# Altium integrated library micro-siemens.IntLib: 88 symbols (part 1 of 3)
Pins are listed as number, name and electrical type; pins without a type are passive.

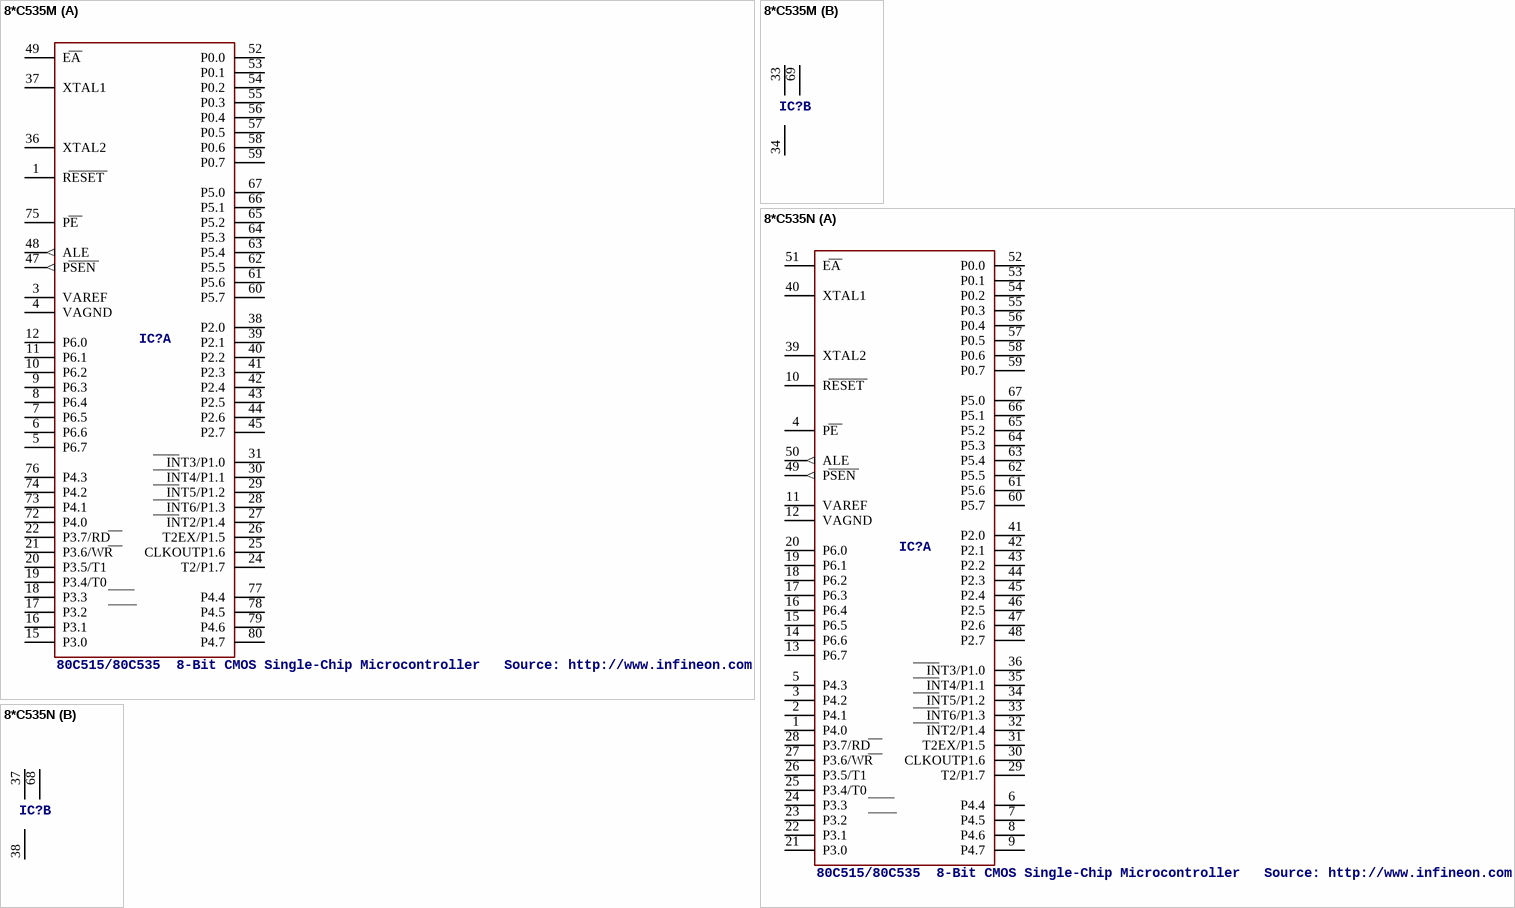
[diagram p0: symbols 8*C535M to 8*C535N]

## 8*C535M
designator IC?, comment 80C515/80C535  8-Bit CMOS Single-Chip Microcontroller   Source: http://www.infineon.com/cmc_upload/migrated_files/document_files/Datasheet/d80515.pdf This device has been discontinued !!!
OC_FARNELL: unknown; OC_NEWARK: unknown
footprint MQFP80-1
part A pins: 1 RESET, 3 VAREF, 4 VAGND, 5 P6.7, 6 P6.6, 7 P6.5, 8 P6.4, 9 P6.3, 10 P6.2, 11 P6.1, 12 P6.0, 15 P3.0, 16 P3.1, 17 P3.2, 18 P3.3, 19 P3.4/T0, 20 P3.5/T1, 21 P3.6/WR, 22 P3.7/RD, 24 T2/P1.7, 25 CLKOUTP1.6, 26 T2EX/P1.5, 27 INT2/P1.4, 28 INT6/P1.3, 29 INT5/P1.2, 30 INT4/P1.1, 31 INT3/P1.0, 36 XTAL2, 37 XTAL1, 38 P2.0, 39 P2.1, 40 P2.2, 41 P2.3, 42 P2.4, 43 P2.5, 44 P2.6, 45 P2.7, 47 PSEN (out), 48 ALE (out), 49 EA, 52 P0.0, 53 P0.1, 54 P0.2, 55 P0.3, 56 P0.4, 57 P0.5, 58 P0.6, 59 P0.7, 60 P5.7, 61 P5.6, 62 P5.5, 63 P5.4, 64 P5.3, 65 P5.2, 66 P5.1, 67 P5.0, 72 P4.0, 73 P4.1, 74 P4.2, 75 PE, 76 P4.3, 77 P4.4, 78 P4.5, 79 P4.6, 80 P4.7
part B pins: 33 VCC@1 (power), 34 GND@1 (power), 69 VCC@2 (power)

## 8*C535N
designator IC?, comment 80C515/80C535  8-Bit CMOS Single-Chip Microcontroller   Source: http://www.infineon.com/cmc_upload/migrated_files/document_files/Datasheet/d80515.pdf This device has been discontinued !!!
OC_FARNELL: unknown; OC_NEWARK: unknown
footprint PLCC68
part A pins: 1 P4.0, 2 P4.1, 3 P4.2, 4 PE, 5 P4.3, 6 P4.4, 7 P4.5, 8 P4.6, 9 P4.7, 10 RESET, 11 VAREF, 12 VAGND, 13 P6.7, 14 P6.6, 15 P6.5, 16 P6.4, 17 P6.3, 18 P6.2, 19 P6.1, 20 P6.0, 21 P3.0, 22 P3.1, 23 P3.2, 24 P3.3, 25 P3.4/T0, 26 P3.5/T1, 27 P3.6/WR, 28 P3.7/RD, 29 T2/P1.7, 30 CLKOUTP1.6, 31 T2EX/P1.5, 32 INT2/P1.4, 33 INT6/P1.3, 34 INT5/P1.2, 35 INT4/P1.1, 36 INT3/P1.0, 39 XTAL2, 40 XTAL1, 41 P2.0, 42 P2.1, 43 P2.2, 44 P2.3, 45 P2.4, 46 P2.5, 47 P2.6, 48 P2.7, 49 PSEN (out), 50 ALE (out), 51 EA, 52 P0.0, 53 P0.1, 54 P0.2, 55 P0.3, 56 P0.4, 57 P0.5, 58 P0.6, 59 P0.7, 60 P5.7, 61 P5.6, 62 P5.5, 63 P5.4, 64 P5.3, 65 P5.2, 66 P5.1, 67 P5.0
part B pins: 37 VCC@1 (power), 38 GND@1 (power), 68 VCC@2 (power)

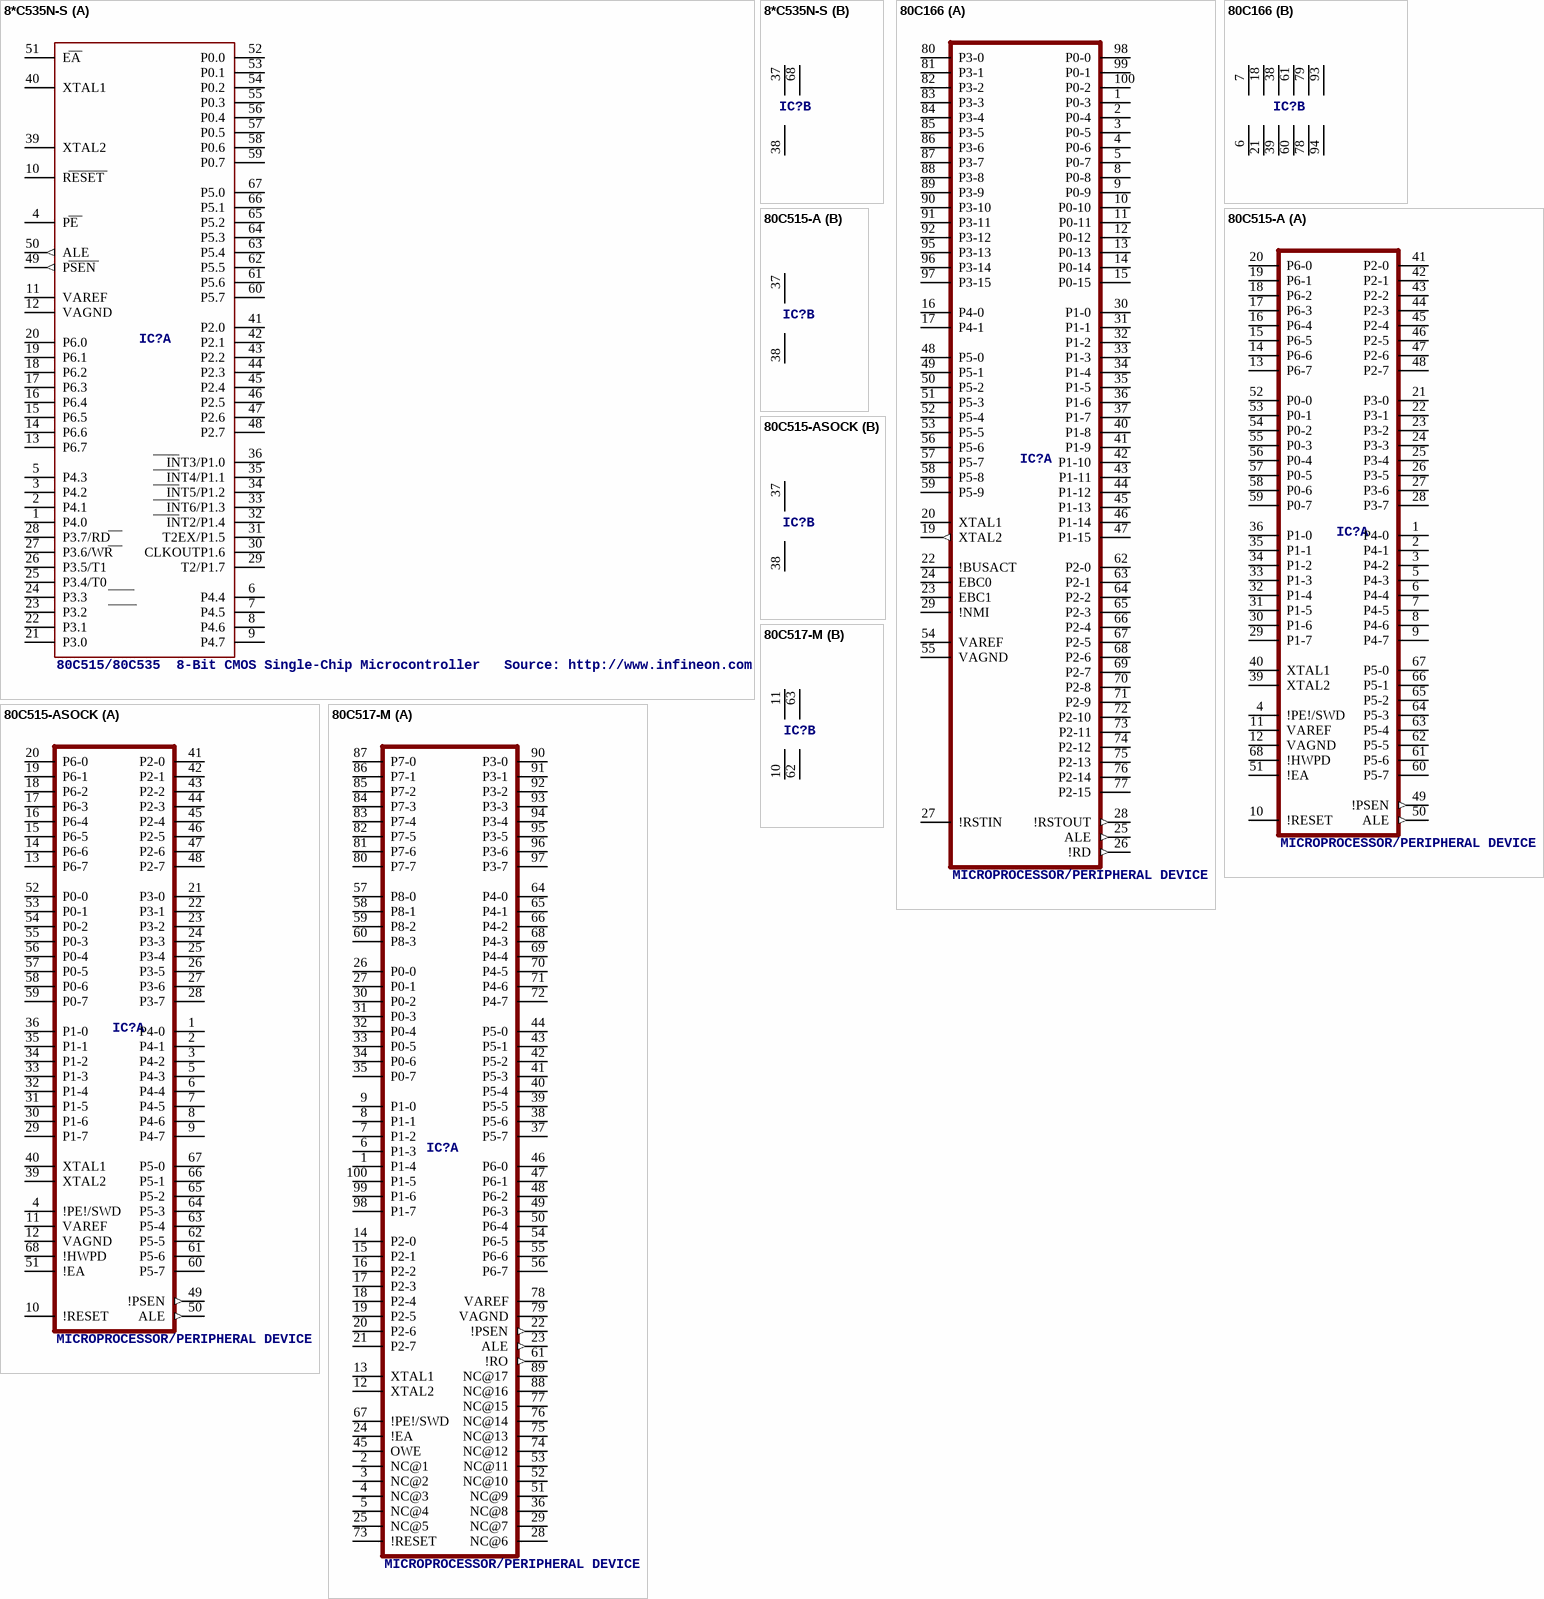
[diagram p1: symbols 8*C535N-S to 80C517-M]

## 8*C535N-S
designator IC?, comment 80C515/80C535  8-Bit CMOS Single-Chip Microcontroller   Source: http://www.infineon.com/cmc_upload/migrated_files/document_files/Datasheet/d80515.pdf This device has been discontinued !!!
OC_FARNELL: unknown; OC_NEWARK: unknown
footprint PLCC68SOCK
part A pins: 1 P4.0, 2 P4.1, 3 P4.2, 4 PE, 5 P4.3, 6 P4.4, 7 P4.5, 8 P4.6, 9 P4.7, 10 RESET, 11 VAREF, 12 VAGND, 13 P6.7, 14 P6.6, 15 P6.5, 16 P6.4, 17 P6.3, 18 P6.2, 19 P6.1, 20 P6.0, 21 P3.0, 22 P3.1, 23 P3.2, 24 P3.3, 25 P3.4/T0, 26 P3.5/T1, 27 P3.6/WR, 28 P3.7/RD, 29 T2/P1.7, 30 CLKOUTP1.6, 31 T2EX/P1.5, 32 INT2/P1.4, 33 INT6/P1.3, 34 INT5/P1.2, 35 INT4/P1.1, 36 INT3/P1.0, 39 XTAL2, 40 XTAL1, 41 P2.0, 42 P2.1, 43 P2.2, 44 P2.3, 45 P2.4, 46 P2.5, 47 P2.6, 48 P2.7, 49 PSEN (out), 50 ALE (out), 51 EA, 52 P0.0, 53 P0.1, 54 P0.2, 55 P0.3, 56 P0.4, 57 P0.5, 58 P0.6, 59 P0.7, 60 P5.7, 61 P5.6, 62 P5.5, 63 P5.4, 64 P5.3, 65 P5.2, 66 P5.1, 67 P5.0
part B pins: 37 VCC@1 (power), 38 GND@1 (power), 68 VCC@2 (power)

## 80C166
designator IC?, comment MICROPROCESSOR/PERIPHERAL DEVICE
OC_FARNELL: unknown; OC_NEWARK: unknown
footprint MQFP100
part A pins: 1 P0-3, 2 P0-4, 3 P0-5, 4 P0-6, 5 P0-7, 8 P0-8, 9 P0-9, 10 P0-10, 11 P0-11, 12 P0-12, 13 P0-13, 14 P0-14, 15 P0-15, 16 P4-0, 17 P4-1, 19 XTAL2 (out), 20 XTAL1, 22 !BUSACT, 23 EBC1, 24 EBC0, 25 ALE (out), 26 !RD (out), 27 !RSTIN, 28 !RSTOUT (out), 29 !NMI, 30 P1-0, 31 P1-1, 32 P1-2, 33 P1-3, 34 P1-4, 35 P1-5, 36 P1-6, 37 P1-7, 40 P1-8, 41 P1-9, 42 P1-10, 43 P1-11, 44 P1-12, 45 P1-13, 46 P1-14, 47 P1-15, 48 P5-0, 49 P5-1, 50 P5-2, 51 P5-3, 52 P5-4, 53 P5-5, 54 VAREF, 55 VAGND, 56 P5-6, 57 P5-7, 58 P5-8, 59 P5-9, 62 P2-0, 63 P2-1, 64 P2-2, 65 P2-3, 66 P2-4, 67 P2-5, 68 P2-6, 69 P2-7, 70 P2-8, 71 P2-9, 72 P2-10, 73 P2-11, 74 P2-12, 75 P2-13, 76 P2-14, 77 P2-15, 80 P3-0, 81 P3-1, 82 P3-2, 83 P3-3, 84 P3-4, 85 P3-5, 86 P3-6, 87 P3-7, 88 P3-8, 89 P3-9, 90 P3-10, 91 P3-11, 92 P3-12, 95 P3-13, 96 P3-14, 97 P3-15, 98 P0-0, 99 P0-1, 100 P0-2
part B pins: 6 VSS@1 (power), 7 VCC@1 (power), 18 VCC@2 (power), 21 VSS@2 (power), 38 VCC@3 (power), 39 VSS@3 (power), 60 VSS@4 (power), 61 VCC@4 (power), 78 VSS@5 (power), 79 VCC@5 (power), 93 VCC@6 (power), 94 VSS@6 (power)

## 80C515-A
designator IC?, comment MICROPROCESSOR/PERIPHERAL DEVICE
OC_FARNELL: unknown; OC_NEWARK: unknown
footprint PLCC68
part A pins: 1 P4-0, 2 P4-1, 3 P4-2, 4 !PE!/SWD, 5 P4-3, 6 P4-4, 7 P4-5, 8 P4-6, 9 P4-7, 10 !RESET, 11 VAREF, 12 VAGND, 13 P6-7, 14 P6-6, 15 P6-5, 16 P6-4, 17 P6-3, 18 P6-2, 19 P6-1, 20 P6-0, 21 P3-0, 22 P3-1, 23 P3-2, 24 P3-3, 25 P3-4, 26 P3-5, 27 P3-6, 28 P3-7, 29 P1-7, 30 P1-6, 31 P1-5, 32 P1-4, 33 P1-3, 34 P1-2, 35 P1-1, 36 P1-0, 39 XTAL2, 40 XTAL1, 41 P2-0, 42 P2-1, 43 P2-2, 44 P2-3, 45 P2-4, 46 P2-5, 47 P2-6, 48 P2-7, 49 !PSEN (out), 50 ALE (out), 51 !EA, 52 P0-0, 53 P0-1, 54 P0-2, 55 P0-3, 56 P0-4, 57 P0-5, 58 P0-6, 59 P0-7, 60 P5-7, 61 P5-6, 62 P5-5, 63 P5-4, 64 P5-3, 65 P5-2, 66 P5-1, 67 P5-0, 68 !HWPD
part B pins: 37 VCC (power), 38 VSS (power)

## 80C515-ASOCK
designator IC?, comment MICROPROCESSOR/PERIPHERAL DEVICE
OC_FARNELL: unknown; OC_NEWARK: unknown
footprint PLCC68SOCK
part A pins: 1 P4-0, 2 P4-1, 3 P4-2, 4 !PE!/SWD, 5 P4-3, 6 P4-4, 7 P4-5, 8 P4-6, 9 P4-7, 10 !RESET, 11 VAREF, 12 VAGND, 13 P6-7, 14 P6-6, 15 P6-5, 16 P6-4, 17 P6-3, 18 P6-2, 19 P6-1, 20 P6-0, 21 P3-0, 22 P3-1, 23 P3-2, 24 P3-3, 25 P3-4, 26 P3-5, 27 P3-6, 28 P3-7, 29 P1-7, 30 P1-6, 31 P1-5, 32 P1-4, 33 P1-3, 34 P1-2, 35 P1-1, 36 P1-0, 39 XTAL2, 40 XTAL1, 41 P2-0, 42 P2-1, 43 P2-2, 44 P2-3, 45 P2-4, 46 P2-5, 47 P2-6, 48 P2-7, 49 !PSEN (out), 50 ALE (out), 51 !EA, 52 P0-0, 53 P0-1, 54 P0-2, 55 P0-3, 56 P0-4, 57 P0-5, 58 P0-6, 59 P0-7, 60 P5-7, 61 P5-6, 62 P5-5, 63 P5-4, 64 P5-3, 65 P5-2, 66 P5-1, 67 P5-0, 68 !HWPD
part B pins: 37 VCC (power), 38 VSS (power)

## 80C517-M
designator IC?, comment MICROPROCESSOR/PERIPHERAL DEVICE
OC_FARNELL: unknown; OC_NEWARK: unknown
footprint MQFP100
part A pins: 1 P1-4, 2 NC@1, 3 NC@2, 4 NC@3, 5 NC@4, 6 P1-3, 7 P1-2, 8 P1-1, 9 P1-0, 12 XTAL2, 13 XTAL1, 14 P2-0, 15 P2-1, 16 P2-2, 17 P2-3, 18 P2-4, 19 P2-5, 20 P2-6, 21 P2-7, 22 !PSEN (out), 23 ALE (out), 24 !EA, 25 NC@5, 26 P0-0, 27 P0-1, 28 NC@6, 29 NC@7, 30 P0-2, 31 P0-3, 32 P0-4, 33 P0-5, 34 P0-6, 35 P0-7, 36 NC@8, 37 P5-7, 38 P5-6, 39 P5-5, 40 P5-4, 41 P5-3, 42 P5-2, 43 P5-1, 44 P5-0, 45 OWE, 46 P6-0, 47 P6-1, 48 P6-2, 49 P6-3, 50 P6-4, 51 NC@9, 52 NC@10, 53 NC@11, 54 P6-5, 55 P6-6, 56 P6-7, 57 P8-0, 58 P8-1, 59 P8-2, 60 P8-3, 61 !RO (out), 64 P4-0, 65 P4-1, 66 P4-2, 67 !PE!/SWD, 68 P4-3, 69 P4-4, 70 P4-5, 71 P4-6, 72 P4-7, 73 !RESET, 74 NC@12, 75 NC@13, 76 NC@14, 77 NC@15, 78 VAREF, 79 VAGND, 80 P7-7, 81 P7-6, 82 P7-5, 83 P7-4, 84 P7-3, 85 P7-2, 86 P7-1, 87 P7-0, 88 NC@16, 89 NC@17, 90 P3-0, 91 P3-1, 92 P3-2, 93 P3-3, 94 P3-4, 95 P3-5, 96 P3-6, 97 P3-7, 98 P1-7, 99 P1-6, 100 P1-5
part B pins: 10 VSS@1 (power), 11 VCC@1 (power), 62 VSS@2 (power), 63 VCC@2 (power)

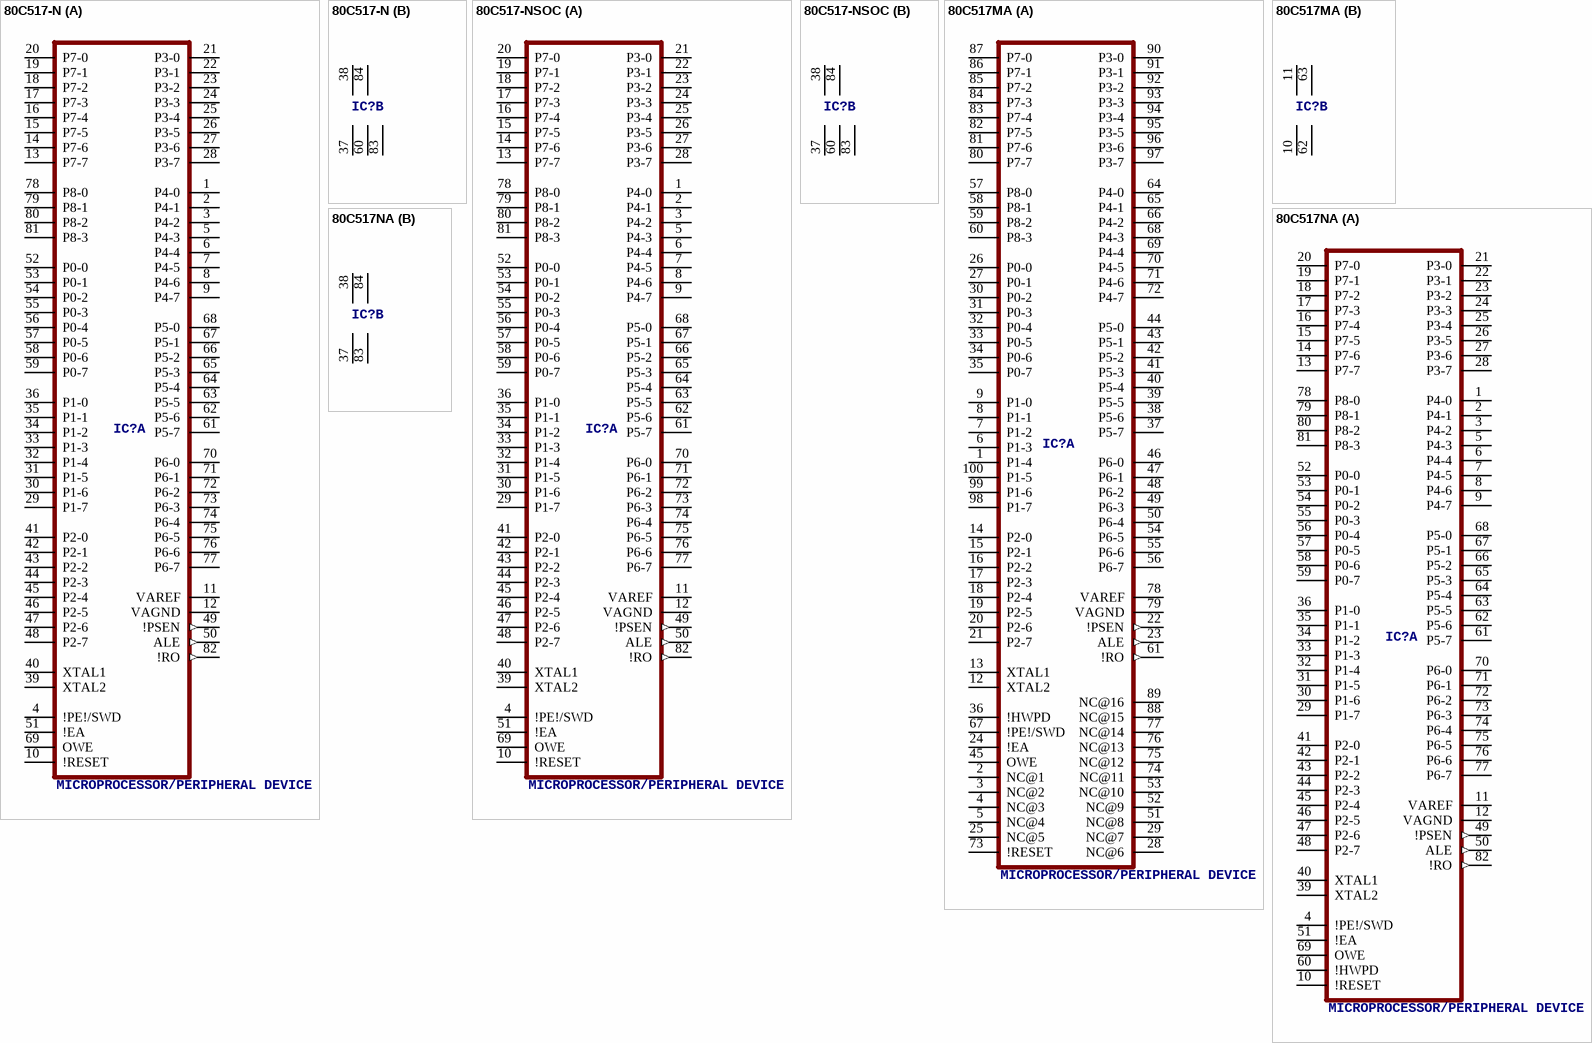
[diagram p2: symbols 80C517-N to 80C517NA]

## 80C517-N
designator IC?, comment MICROPROCESSOR/PERIPHERAL DEVICE
OC_FARNELL: unknown; OC_NEWARK: unknown
footprint PLCC84
part A pins: 1 P4-0, 2 P4-1, 3 P4-2, 4 !PE!/SWD, 5 P4-3, 6 P4-4, 7 P4-5, 8 P4-6, 9 P4-7, 10 !RESET, 11 VAREF, 12 VAGND, 13 P7-7, 14 P7-6, 15 P7-5, 16 P7-4, 17 P7-3, 18 P7-2, 19 P7-1, 20 P7-0, 21 P3-0, 22 P3-1, 23 P3-2, 24 P3-3, 25 P3-4, 26 P3-5, 27 P3-6, 28 P3-7, 29 P1-7, 30 P1-6, 31 P1-5, 32 P1-4, 33 P1-3, 34 P1-2, 35 P1-1, 36 P1-0, 39 XTAL2, 40 XTAL1, 41 P2-0, 42 P2-1, 43 P2-2, 44 P2-3, 45 P2-4, 46 P2-5, 47 P2-6, 48 P2-7, 49 !PSEN (out), 50 ALE (out), 51 !EA, 52 P0-0, 53 P0-1, 54 P0-2, 55 P0-3, 56 P0-4, 57 P0-5, 58 P0-6, 59 P0-7, 61 P5-7, 62 P5-6, 63 P5-5, 64 P5-4, 65 P5-3, 66 P5-2, 67 P5-1, 68 P5-0, 69 OWE, 70 P6-0, 71 P6-1, 72 P6-2, 73 P6-3, 74 P6-4, 75 P6-5, 76 P6-6, 77 P6-7, 78 P8-0, 79 P8-1, 80 P8-2, 81 P8-3, 82 !RO (out)
part B pins: 37 VSS@1 (power), 38 VCC@1 (power), 60 VSS@2 (power), 83 VSS@3 (power), 84 VCC@2 (power)

## 80C517-NSOC
designator IC?, comment MICROPROCESSOR/PERIPHERAL DEVICE
OC_FARNELL: unknown; OC_NEWARK: unknown
footprint PLCC84SOCK
part A pins: 1 P4-0, 2 P4-1, 3 P4-2, 4 !PE!/SWD, 5 P4-3, 6 P4-4, 7 P4-5, 8 P4-6, 9 P4-7, 10 !RESET, 11 VAREF, 12 VAGND, 13 P7-7, 14 P7-6, 15 P7-5, 16 P7-4, 17 P7-3, 18 P7-2, 19 P7-1, 20 P7-0, 21 P3-0, 22 P3-1, 23 P3-2, 24 P3-3, 25 P3-4, 26 P3-5, 27 P3-6, 28 P3-7, 29 P1-7, 30 P1-6, 31 P1-5, 32 P1-4, 33 P1-3, 34 P1-2, 35 P1-1, 36 P1-0, 39 XTAL2, 40 XTAL1, 41 P2-0, 42 P2-1, 43 P2-2, 44 P2-3, 45 P2-4, 46 P2-5, 47 P2-6, 48 P2-7, 49 !PSEN (out), 50 ALE (out), 51 !EA, 52 P0-0, 53 P0-1, 54 P0-2, 55 P0-3, 56 P0-4, 57 P0-5, 58 P0-6, 59 P0-7, 61 P5-7, 62 P5-6, 63 P5-5, 64 P5-4, 65 P5-3, 66 P5-2, 67 P5-1, 68 P5-0, 69 OWE, 70 P6-0, 71 P6-1, 72 P6-2, 73 P6-3, 74 P6-4, 75 P6-5, 76 P6-6, 77 P6-7, 78 P8-0, 79 P8-1, 80 P8-2, 81 P8-3, 82 !RO (out)
part B pins: 37 VSS@1 (power), 38 VCC@1 (power), 60 VSS@2 (power), 83 VSS@3 (power), 84 VCC@2 (power)

## 80C517MA
designator IC?, comment MICROPROCESSOR/PERIPHERAL DEVICE
OC_FARNELL: unknown; OC_NEWARK: unknown
footprint MQFP100
part A pins: 1 P1-4, 2 NC@1, 3 NC@2, 4 NC@3, 5 NC@4, 6 P1-3, 7 P1-2, 8 P1-1, 9 P1-0, 12 XTAL2, 13 XTAL1, 14 P2-0, 15 P2-1, 16 P2-2, 17 P2-3, 18 P2-4, 19 P2-5, 20 P2-6, 21 P2-7, 22 !PSEN (out), 23 ALE (out), 24 !EA, 25 NC@5, 26 P0-0, 27 P0-1, 28 NC@6, 29 NC@7, 30 P0-2, 31 P0-3, 32 P0-4, 33 P0-5, 34 P0-6, 35 P0-7, 36 !HWPD, 37 P5-7, 38 P5-6, 39 P5-5, 40 P5-4, 41 P5-3, 42 P5-2, 43 P5-1, 44 P5-0, 45 OWE, 46 P6-0, 47 P6-1, 48 P6-2, 49 P6-3, 50 P6-4, 51 NC@8, 52 NC@9, 53 NC@10, 54 P6-5, 55 P6-6, 56 P6-7, 57 P8-0, 58 P8-1, 59 P8-2, 60 P8-3, 61 !RO (out), 64 P4-0, 65 P4-1, 66 P4-2, 67 !PE!/SWD, 68 P4-3, 69 P4-4, 70 P4-5, 71 P4-6, 72 P4-7, 73 !RESET, 74 NC@11, 75 NC@12, 76 NC@13, 77 NC@14, 78 VAREF, 79 VAGND, 80 P7-7, 81 P7-6, 82 P7-5, 83 P7-4, 84 P7-3, 85 P7-2, 86 P7-1, 87 P7-0, 88 NC@15, 89 NC@16, 90 P3-0, 91 P3-1, 92 P3-2, 93 P3-3, 94 P3-4, 95 P3-5, 96 P3-6, 97 P3-7, 98 P1-7, 99 P1-6, 100 P1-5
part B pins: 10 VSS@1 (power), 11 VCC@1 (power), 62 VSS@2 (power), 63 VCC@2 (power)

## 80C517NA
designator IC?, comment MICROPROCESSOR/PERIPHERAL DEVICE
OC_FARNELL: unknown; OC_NEWARK: unknown
footprint PLCC84
part A pins: 1 P4-0, 2 P4-1, 3 P4-2, 4 !PE!/SWD, 5 P4-3, 6 P4-4, 7 P4-5, 8 P4-6, 9 P4-7, 10 !RESET, 11 VAREF, 12 VAGND, 13 P7-7, 14 P7-6, 15 P7-5, 16 P7-4, 17 P7-3, 18 P7-2, 19 P7-1, 20 P7-0, 21 P3-0, 22 P3-1, 23 P3-2, 24 P3-3, 25 P3-4, 26 P3-5, 27 P3-6, 28 P3-7, 29 P1-7, 30 P1-6, 31 P1-5, 32 P1-4, 33 P1-3, 34 P1-2, 35 P1-1, 36 P1-0, 39 XTAL2, 40 XTAL1, 41 P2-0, 42 P2-1, 43 P2-2, 44 P2-3, 45 P2-4, 46 P2-5, 47 P2-6, 48 P2-7, 49 !PSEN (out), 50 ALE (out), 51 !EA, 52 P0-0, 53 P0-1, 54 P0-2, 55 P0-3, 56 P0-4, 57 P0-5, 58 P0-6, 59 P0-7, 60 !HWPD, 61 P5-7, 62 P5-6, 63 P5-5, 64 P5-4, 65 P5-3, 66 P5-2, 67 P5-1, 68 P5-0, 69 OWE, 70 P6-0, 71 P6-1, 72 P6-2, 73 P6-3, 74 P6-4, 75 P6-5, 76 P6-6, 77 P6-7, 78 P8-0, 79 P8-1, 80 P8-2, 81 P8-3, 82 !RO (out)
part B pins: 37 VSS@1 (power), 38 VCC@1 (power), 83 VSS@2 (power), 84 VCC@2 (power)

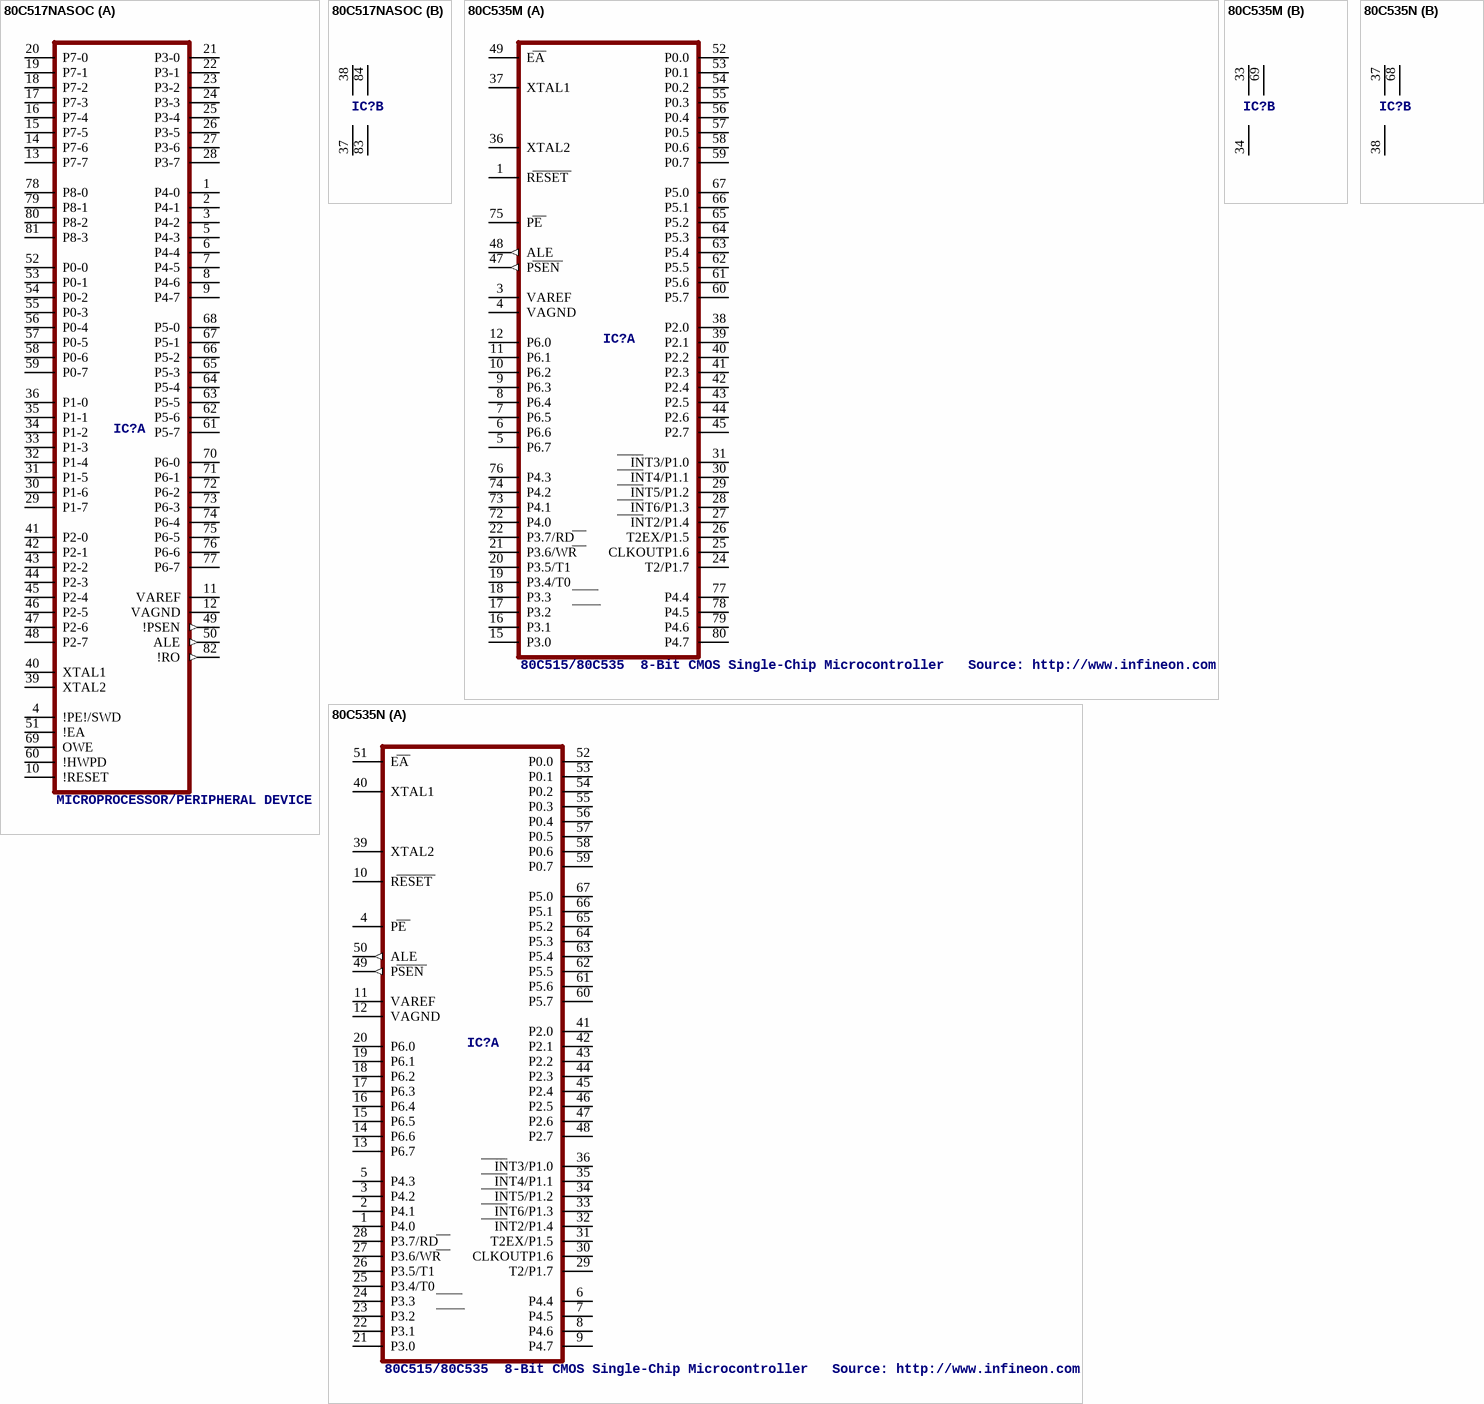
[diagram p3: symbols 80C517NASOC to 80C535N]

## 80C517NASOC
designator IC?, comment MICROPROCESSOR/PERIPHERAL DEVICE
OC_FARNELL: unknown; OC_NEWARK: unknown
footprint PLCC84SOCK
part A pins: 1 P4-0, 2 P4-1, 3 P4-2, 4 !PE!/SWD, 5 P4-3, 6 P4-4, 7 P4-5, 8 P4-6, 9 P4-7, 10 !RESET, 11 VAREF, 12 VAGND, 13 P7-7, 14 P7-6, 15 P7-5, 16 P7-4, 17 P7-3, 18 P7-2, 19 P7-1, 20 P7-0, 21 P3-0, 22 P3-1, 23 P3-2, 24 P3-3, 25 P3-4, 26 P3-5, 27 P3-6, 28 P3-7, 29 P1-7, 30 P1-6, 31 P1-5, 32 P1-4, 33 P1-3, 34 P1-2, 35 P1-1, 36 P1-0, 39 XTAL2, 40 XTAL1, 41 P2-0, 42 P2-1, 43 P2-2, 44 P2-3, 45 P2-4, 46 P2-5, 47 P2-6, 48 P2-7, 49 !PSEN (out), 50 ALE (out), 51 !EA, 52 P0-0, 53 P0-1, 54 P0-2, 55 P0-3, 56 P0-4, 57 P0-5, 58 P0-6, 59 P0-7, 60 !HWPD, 61 P5-7, 62 P5-6, 63 P5-5, 64 P5-4, 65 P5-3, 66 P5-2, 67 P5-1, 68 P5-0, 69 OWE, 70 P6-0, 71 P6-1, 72 P6-2, 73 P6-3, 74 P6-4, 75 P6-5, 76 P6-6, 77 P6-7, 78 P8-0, 79 P8-1, 80 P8-2, 81 P8-3, 82 !RO (out)
part B pins: 37 VSS@1 (power), 38 VCC@1 (power), 83 VSS@2 (power), 84 VCC@2 (power)

## 80C535M
designator IC?, comment 80C515/80C535  8-Bit CMOS Single-Chip Microcontroller   Source: http://www.infineon.com/cmc_upload/migrated_files/document_files/Datasheet/d80515.pdf
OC_FARNELL: unknown; OC_NEWARK: unknown
footprint MQFP80-1
part A pins: 1 RESET, 3 VAREF, 4 VAGND, 5 P6.7, 6 P6.6, 7 P6.5, 8 P6.4, 9 P6.3, 10 P6.2, 11 P6.1, 12 P6.0, 15 P3.0, 16 P3.1, 17 P3.2, 18 P3.3, 19 P3.4/T0, 20 P3.5/T1, 21 P3.6/WR, 22 P3.7/RD, 24 T2/P1.7, 25 CLKOUTP1.6, 26 T2EX/P1.5, 27 INT2/P1.4, 28 INT6/P1.3, 29 INT5/P1.2, 30 INT4/P1.1, 31 INT3/P1.0, 36 XTAL2, 37 XTAL1, 38 P2.0, 39 P2.1, 40 P2.2, 41 P2.3, 42 P2.4, 43 P2.5, 44 P2.6, 45 P2.7, 47 PSEN (out), 48 ALE (out), 49 EA, 52 P0.0, 53 P0.1, 54 P0.2, 55 P0.3, 56 P0.4, 57 P0.5, 58 P0.6, 59 P0.7, 60 P5.7, 61 P5.6, 62 P5.5, 63 P5.4, 64 P5.3, 65 P5.2, 66 P5.1, 67 P5.0, 72 P4.0, 73 P4.1, 74 P4.2, 75 PE, 76 P4.3, 77 P4.4, 78 P4.5, 79 P4.6, 80 P4.7
part B pins: 33 VCC@1 (power), 34 GND@1 (power), 69 VCC@2 (power)

## 80C535N
designator IC?, comment 80C515/80C535  8-Bit CMOS Single-Chip Microcontroller   Source: http://www.infineon.com/cmc_upload/migrated_files/document_files/Datasheet/d80515.pdf
OC_FARNELL: unknown; OC_NEWARK: unknown
footprint PLCC68
part A pins: 1 P4.0, 2 P4.1, 3 P4.2, 4 PE, 5 P4.3, 6 P4.4, 7 P4.5, 8 P4.6, 9 P4.7, 10 RESET, 11 VAREF, 12 VAGND, 13 P6.7, 14 P6.6, 15 P6.5, 16 P6.4, 17 P6.3, 18 P6.2, 19 P6.1, 20 P6.0, 21 P3.0, 22 P3.1, 23 P3.2, 24 P3.3, 25 P3.4/T0, 26 P3.5/T1, 27 P3.6/WR, 28 P3.7/RD, 29 T2/P1.7, 30 CLKOUTP1.6, 31 T2EX/P1.5, 32 INT2/P1.4, 33 INT6/P1.3, 34 INT5/P1.2, 35 INT4/P1.1, 36 INT3/P1.0, 39 XTAL2, 40 XTAL1, 41 P2.0, 42 P2.1, 43 P2.2, 44 P2.3, 45 P2.4, 46 P2.5, 47 P2.6, 48 P2.7, 49 PSEN (out), 50 ALE (out), 51 EA, 52 P0.0, 53 P0.1, 54 P0.2, 55 P0.3, 56 P0.4, 57 P0.5, 58 P0.6, 59 P0.7, 60 P5.7, 61 P5.6, 62 P5.5, 63 P5.4, 64 P5.3, 65 P5.2, 66 P5.1, 67 P5.0
part B pins: 37 VCC@1 (power), 38 GND@1 (power), 68 VCC@2 (power)

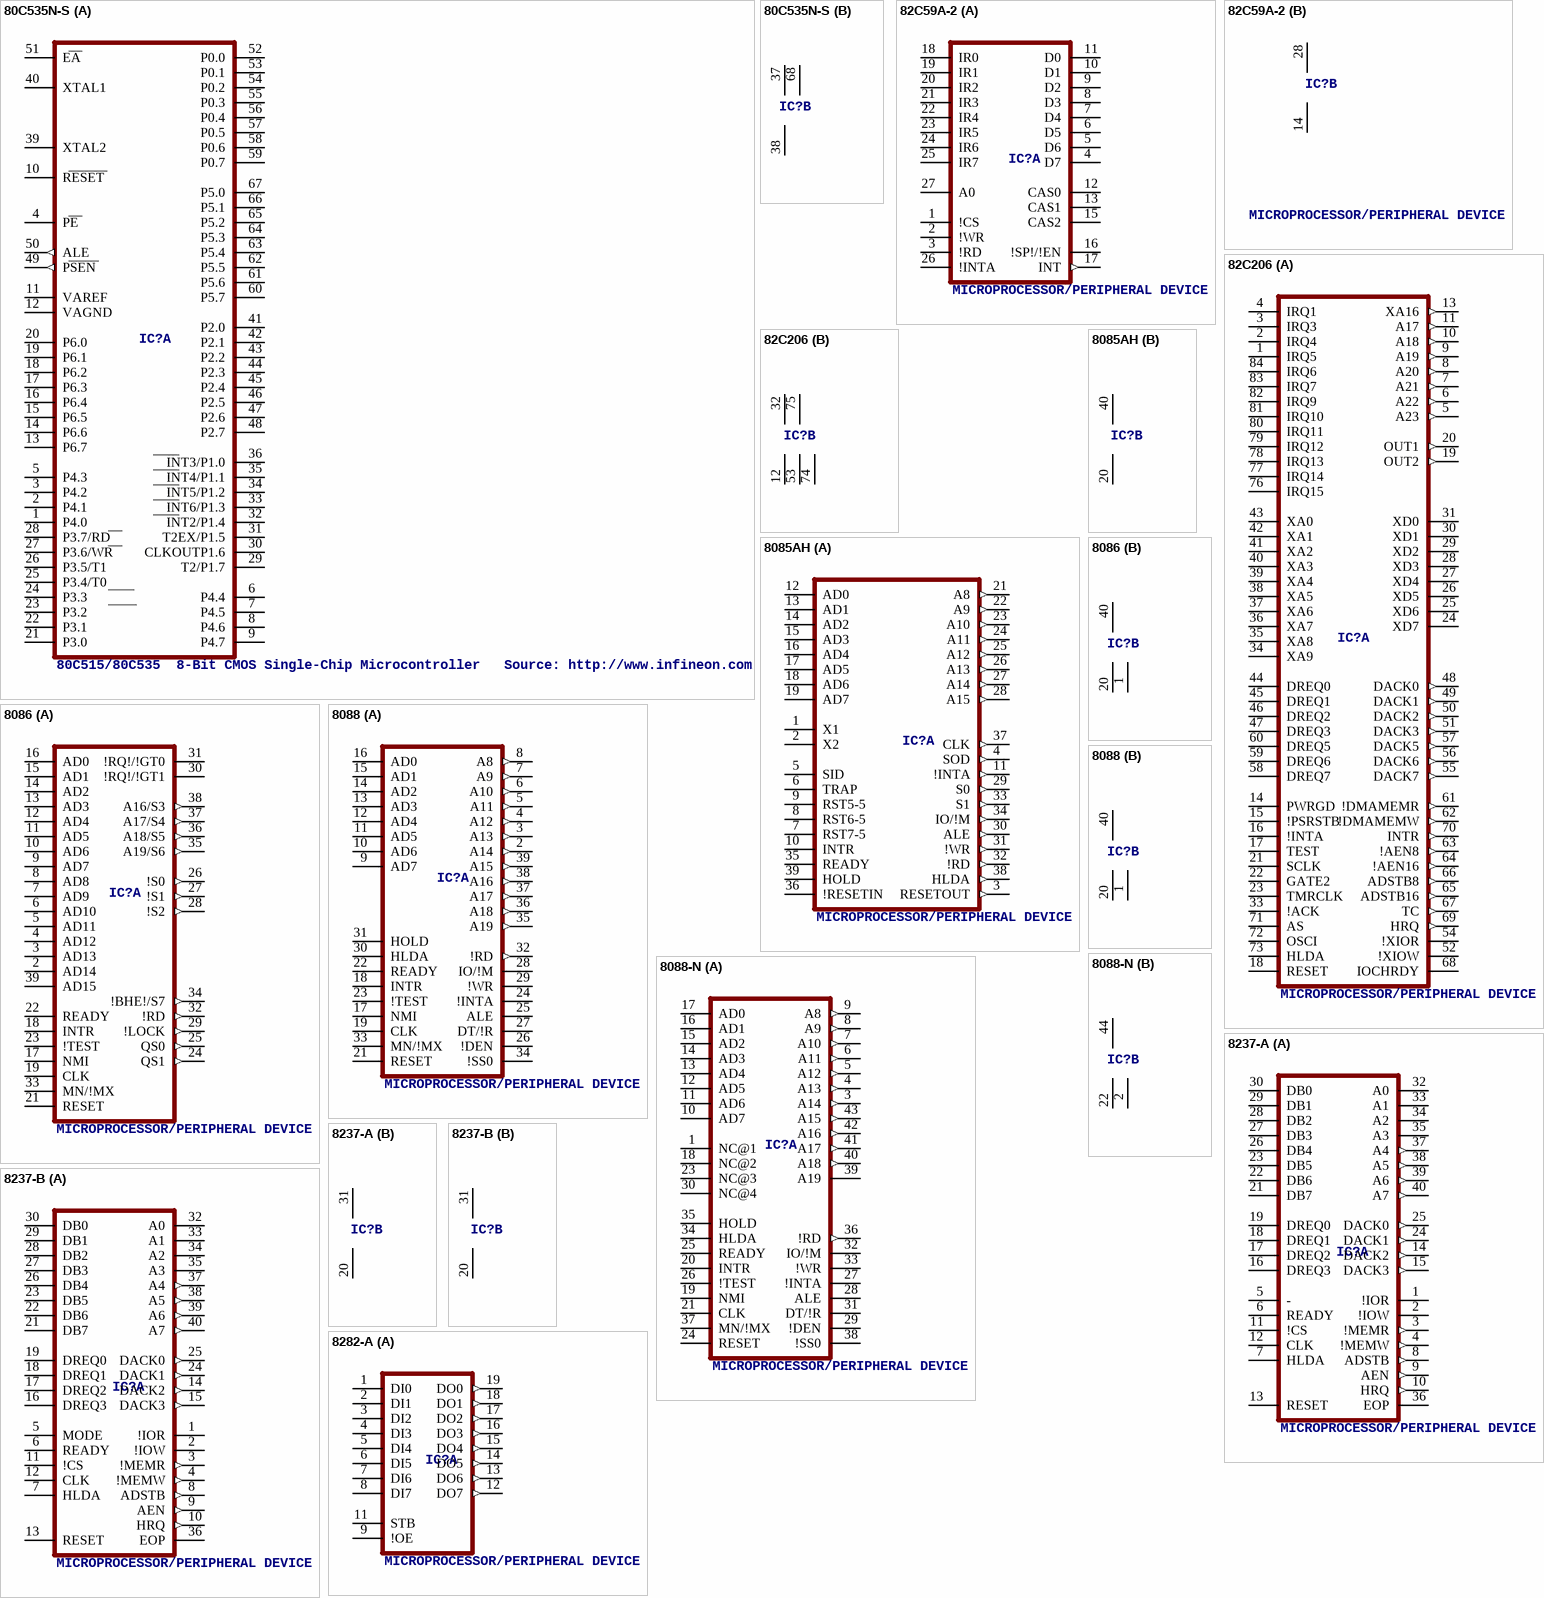
[diagram p4: symbols 80C535N-S to 8282-A]

## 80C535N-S
designator IC?, comment 80C515/80C535  8-Bit CMOS Single-Chip Microcontroller   Source: http://www.infineon.com/cmc_upload/migrated_files/document_files/Datasheet/d80515.pdf
OC_FARNELL: unknown; OC_NEWARK: unknown
footprint PLCC68SOCK
part A pins: 1 P4.0, 2 P4.1, 3 P4.2, 4 PE, 5 P4.3, 6 P4.4, 7 P4.5, 8 P4.6, 9 P4.7, 10 RESET, 11 VAREF, 12 VAGND, 13 P6.7, 14 P6.6, 15 P6.5, 16 P6.4, 17 P6.3, 18 P6.2, 19 P6.1, 20 P6.0, 21 P3.0, 22 P3.1, 23 P3.2, 24 P3.3, 25 P3.4/T0, 26 P3.5/T1, 27 P3.6/WR, 28 P3.7/RD, 29 T2/P1.7, 30 CLKOUTP1.6, 31 T2EX/P1.5, 32 INT2/P1.4, 33 INT6/P1.3, 34 INT5/P1.2, 35 INT4/P1.1, 36 INT3/P1.0, 39 XTAL2, 40 XTAL1, 41 P2.0, 42 P2.1, 43 P2.2, 44 P2.3, 45 P2.4, 46 P2.5, 47 P2.6, 48 P2.7, 49 PSEN (out), 50 ALE (out), 51 EA, 52 P0.0, 53 P0.1, 54 P0.2, 55 P0.3, 56 P0.4, 57 P0.5, 58 P0.6, 59 P0.7, 60 P5.7, 61 P5.6, 62 P5.5, 63 P5.4, 64 P5.3, 65 P5.2, 66 P5.1, 67 P5.0
part B pins: 37 VCC@1 (power), 38 GND@1 (power), 68 VCC@2 (power)

## 82C59A-2
designator IC?, comment MICROPROCESSOR/PERIPHERAL DEVICE
MPN: CP82C59A-12Z; OC_FARNELL: 1561995; OC_NEWARK: 05M7148
footprint DIL28-6
part A pins: 1 !CS, 2 !WR, 3 !RD, 4 D7, 5 D6, 6 D5, 7 D4, 8 D3, 9 D2, 10 D1, 11 D0, 12 CAS0, 13 CAS1, 15 CAS2, 16 !SP!/!EN, 17 INT (out), 18 IR0, 19 IR1, 20 IR2, 21 IR3, 22 IR4, 23 IR5, 24 IR6, 25 IR7, 26 !INTA, 27 A0
part B pins: 14 GND (power), 28 VCC (power)

## 82C206
designator IC?, comment MICROPROCESSOR/PERIPHERAL DEVICE
OC_FARNELL: unknown; OC_NEWARK: unknown
footprint PLCC84
part A pins: 1 IRQ5, 2 IRQ4, 3 IRQ3, 4 IRQ1, 5 A23 (out), 6 A22 (out), 7 A21 (out), 8 A20 (out), 9 A19 (out), 10 A18 (out), 11 A17 (out), 13 XA16 (out), 14 PWRGD, 15 !PSRSTB, 16 !INTA, 17 TEST, 18 RESET, 19 OUT2 (out), 20 OUT1 (out), 21 SCLK, 22 GATE2, 23 TMRCLK, 24 XD7, 25 XD6, 26 XD5, 27 XD4, 28 XD3, 29 XD2, 30 XD1, 31 XD0, 33 !ACK, 34 XA9, 35 XA8, 36 XA7, 37 XA6, 38 XA5, 39 XA4, 40 XA3, 41 XA2, 42 XA1, 43 XA0, 44 DREQ0, 45 DREQ1, 46 DREQ2, 47 DREQ3, 48 DACK0 (out), 49 DACK1 (out), 50 DACK2 (out), 51 DACK3 (out), 52 !XIOW, 54 !XIOR, 55 DACK7 (out), 56 DACK6 (out), 57 DACK5 (out), 58 DREQ7, 59 DREQ6, 60 DREQ5, 61 !DMAMEMR (out), 62 !DMAMEMW (out), 63 !AEN8 (out), 64 !AEN16 (out), 65 ADSTB16 (out), 66 ADSTB8 (out), 67 TC (out), 68 IOCHRDY, 69 HRQ (out), 70 INTR (out), 71 AS, 72 OSCI, 73 HLDA, 76 IRQ15, 77 IRQ14, 78 IRQ13, 79 IRQ12, 80 IRQ11, 81 IRQ10, 82 IRQ9, 83 IRQ7, 84 IRQ6
part B pins: 12 GND@1 (power), 32 VCC@1 (power), 53 GND@2 (power), 74 GND@3 (power), 75 VCC@2 (power)

## 8085AH
designator IC?, comment MICROPROCESSOR/PERIPHERAL DEVICE
OC_FARNELL: unknown; OC_NEWARK: unknown
footprint DIL40
part A pins: 1 X1, 2 X2, 3 RESETOUT (out), 4 SOD (out), 5 SID, 6 TRAP, 7 RST7-5, 8 RST6-5, 9 RST5-5, 10 INTR, 11 !INTA (out), 12 AD0, 13 AD1, 14 AD2, 15 AD3, 16 AD4, 17 AD5, 18 AD6, 19 AD7, 21 A8 (out), 22 A9 (out), 23 A10 (out), 24 A11 (out), 25 A12 (out), 26 A13 (out), 27 A14 (out), 28 A15 (out), 29 S0 (out), 30 ALE (out), 31 !WR (out), 32 !RD (out), 33 S1 (out), 34 IO/!M (out), 35 READY, 36 !RESETIN, 37 CLK (out), 38 HLDA (out), 39 HOLD
part B pins: 20 VSS (power), 40 VCC (power)

## 8086
designator IC?, comment MICROPROCESSOR/PERIPHERAL DEVICE
OC_FARNELL: unknown; OC_NEWARK: unknown
footprint DIL40
part A pins: 2 AD14, 3 AD13, 4 AD12, 5 AD11, 6 AD10, 7 AD9, 8 AD8, 9 AD7, 10 AD6, 11 AD5, 12 AD4, 13 AD3, 14 AD2, 15 AD1, 16 AD0, 17 NMI, 18 INTR, 19 CLK, 21 RESET, 22 READY, 23 !TEST, 24 QS1 (out), 25 QS0 (out), 26 !S0 (out), 27 !S1 (out), 28 !S2 (out), 29 !LOCK (out), 30 !RQ!/!GT1, 31 !RQ!/!GT0, 32 !RD (out), 33 MN/!MX, 34 !BHE!/S7 (out), 35 A19/S6 (out), 36 A18/S5 (out), 37 A17/S4 (out), 38 A16/S3 (out), 39 AD15
part B pins: 1 GND@1 (power), 20 GND (power), 40 VCC (power)

## 8088
designator IC?, comment MICROPROCESSOR/PERIPHERAL DEVICE
OC_FARNELL: unknown; OC_NEWARK: unknown
footprint DIL40
part A pins: 2 A14 (out), 3 A13 (out), 4 A12 (out), 5 A11 (out), 6 A10 (out), 7 A9 (out), 8 A8 (out), 9 AD7, 10 AD6, 11 AD5, 12 AD4, 13 AD3, 14 AD2, 15 AD1, 16 AD0, 17 NMI, 18 INTR, 19 CLK, 21 RESET, 22 READY, 23 !TEST, 24 !INTA, 25 ALE, 26 !DEN, 27 DT/!R, 28 IO/!M, 29 !WR, 30 HLDA, 31 HOLD, 32 !RD (out), 33 MN/!MX, 34 !SS0, 35 A19 (out), 36 A18 (out), 37 A17 (out), 38 A16 (out), 39 A15 (out)
part B pins: 1 GND@1 (power), 20 GND (power), 40 VCC (power)

## 8088-N
designator IC?, comment MICROPROCESSOR/PERIPHERAL DEVICE
OC_FARNELL: unknown; OC_NEWARK: unknown
footprint PLCC44
part A pins: 1 NC@1, 3 A14 (out), 4 A13 (out), 5 A12 (out), 6 A11 (out), 7 A10 (out), 8 A9 (out), 9 A8 (out), 10 AD7, 11 AD6, 12 AD5, 13 AD4, 14 AD3, 15 AD2, 16 AD1, 17 AD0, 18 NC@2, 19 NMI, 20 INTR, 21 CLK, 23 NC@3, 24 RESET, 25 READY, 26 !TEST, 27 !INTA, 28 ALE, 29 !DEN, 30 NC@4, 31 DT/!R, 32 IO/!M, 33 !WR, 34 HLDA, 35 HOLD, 36 !RD (out), 37 MN/!MX, 38 !SS0, 39 A19, 40 A18 (out), 41 A17 (out), 42 A16 (out), 43 A15 (out)
part B pins: 2 GND@1 (power), 22 GND (power), 44 VCC (power)

## 8237-A
designator IC?, comment MICROPROCESSOR/PERIPHERAL DEVICE
OC_FARNELL: unknown; OC_NEWARK: unknown
footprint DIL40
part A pins: 1 !IOR, 2 !IOW, 3 !MEMR (out), 4 !MEMW (out), 5 -, 6 READY, 7 HLDA, 8 ADSTB (out), 9 AEN (out), 10 HRQ (out), 11 !CS, 12 CLK, 13 RESET, 14 DACK2 (out), 15 DACK3 (out), 16 DREQ3, 17 DREQ2, 18 DREQ1, 19 DREQ0, 21 DB7, 22 DB6, 23 DB5, 24 DACK1 (out), 25 DACK0 (out), 26 DB4, 27 DB3, 28 DB2, 29 DB1, 30 DB0, 32 A0, 33 A1, 34 A2, 35 A3, 36 EOP, 37 A4 (out), 38 A5 (out), 39 A6 (out), 40 A7 (out)
part B pins: 20 GND (power), 31 VCC (power)

## 8237-B
designator IC?, comment MICROPROCESSOR/PERIPHERAL DEVICE
OC_FARNELL: unknown; OC_NEWARK: unknown
footprint DIL40
part A pins: 1 !IOR, 2 !IOW, 3 !MEMR (out), 4 !MEMW (out), 5 MODE, 6 READY, 7 HLDA, 8 ADSTB (out), 9 AEN (out), 10 HRQ (out), 11 !CS, 12 CLK, 13 RESET, 14 DACK2 (out), 15 DACK3 (out), 16 DREQ3, 17 DREQ2, 18 DREQ1, 19 DREQ0, 21 DB7, 22 DB6, 23 DB5, 24 DACK1 (out), 25 DACK0 (out), 26 DB4, 27 DB3, 28 DB2, 29 DB1, 30 DB0, 32 A0, 33 A1, 34 A2, 35 A3, 36 EOP, 37 A4 (out), 38 A5 (out), 39 A6 (out), 40 A7 (out)
part B pins: 20 GND (power), 31 VCC (power)

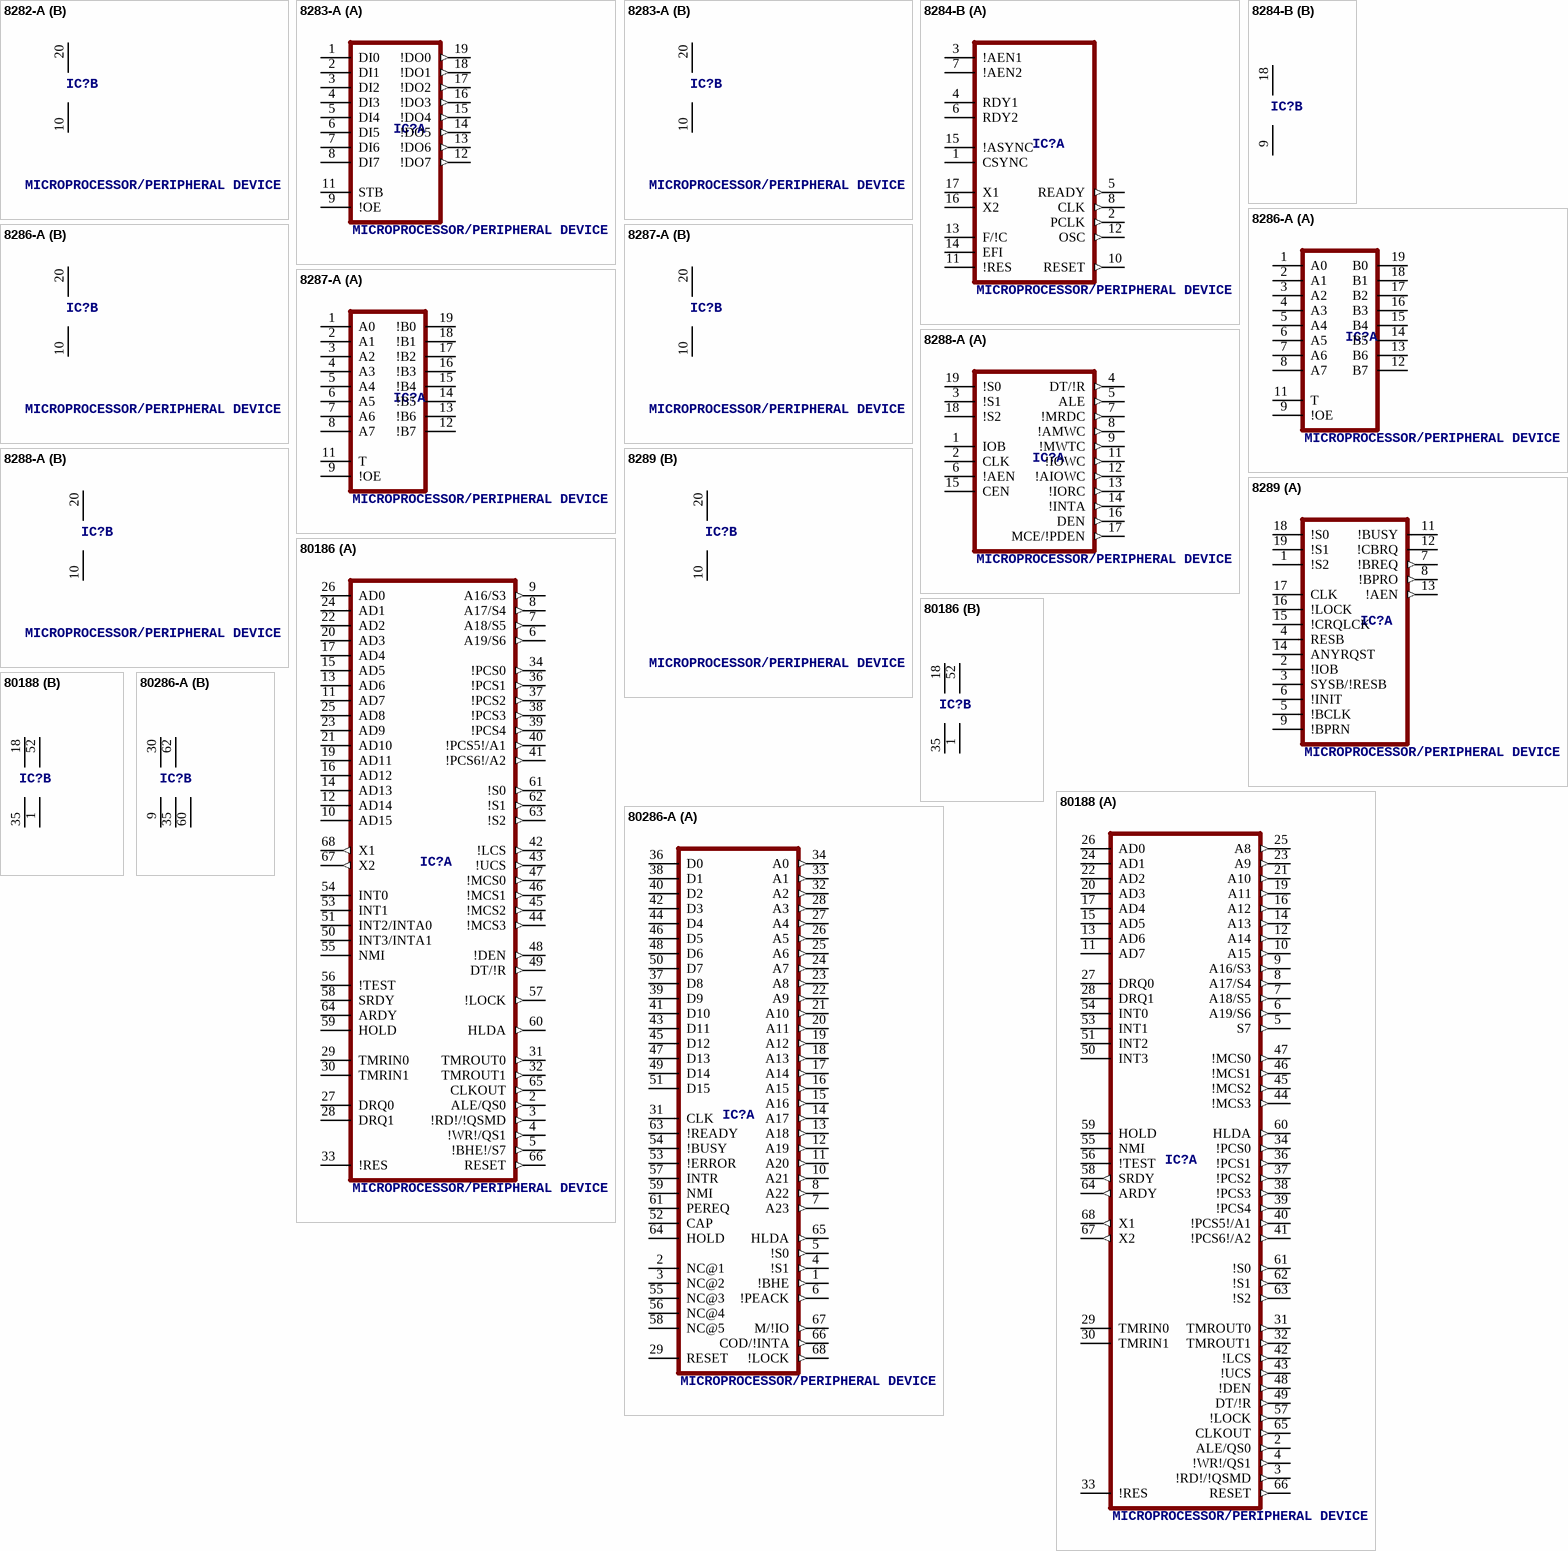
[diagram p5: symbols 8282-A to 80286-A]

## 8282-A
designator IC?, comment MICROPROCESSOR/PERIPHERAL DEVICE
OC_FARNELL: unknown; OC_NEWARK: unknown
footprint DIL20
part A pins: 1 DI0, 2 DI1, 3 DI2, 4 DI3, 5 DI4, 6 DI5, 7 DI6, 8 DI7, 9 !OE, 11 STB, 12 DO7 (out), 13 DO6 (out), 14 DO5 (out), 15 DO4 (out), 16 DO3 (out), 17 DO2 (out), 18 DO1 (out), 19 DO0 (out)
part B pins: 10 GND (power), 20 VCC (power)

## 8283-A
designator IC?, comment MICROPROCESSOR/PERIPHERAL DEVICE
OC_FARNELL: unknown; OC_NEWARK: unknown
footprint DIL20
part A pins: 1 DI0, 2 DI1, 3 DI2, 4 DI3, 5 DI4, 6 DI5, 7 DI6, 8 DI7, 9 !OE, 11 STB, 12 !DO7 (out), 13 !DO6 (out), 14 !DO5 (out), 15 !DO4 (out), 16 !DO3 (out), 17 !DO2 (out), 18 !DO1 (out), 19 !DO0 (out)
part B pins: 10 GND (power), 20 VCC (power)

## 8284-B
designator IC?, comment MICROPROCESSOR/PERIPHERAL DEVICE
OC_FARNELL: unknown; OC_NEWARK: unknown
footprint DIL18
part A pins: 1 CSYNC, 2 PCLK (out), 3 !AEN1, 4 RDY1, 5 READY (out), 6 RDY2, 7 !AEN2, 8 CLK (out), 10 RESET (out), 11 !RES, 12 OSC (out), 13 F/!C, 14 EFI, 15 !ASYNC, 16 X2, 17 X1
part B pins: 9 GND (power), 18 VCC (power)

## 8286-A
designator IC?, comment MICROPROCESSOR/PERIPHERAL DEVICE
OC_FARNELL: unknown; OC_NEWARK: unknown
footprint DIL20
part A pins: 1 A0, 2 A1, 3 A2, 4 A3, 5 A4, 6 A5, 7 A6, 8 A7, 9 !OE, 11 T, 12 B7, 13 B6, 14 B5, 15 B4, 16 B3, 17 B2, 18 B1, 19 B0
part B pins: 10 GND (power), 20 VCC (power)

## 8287-A
designator IC?, comment MICROPROCESSOR/PERIPHERAL DEVICE
OC_FARNELL: unknown; OC_NEWARK: unknown
footprint DIL20
part A pins: 1 A0, 2 A1, 3 A2, 4 A3, 5 A4, 6 A5, 7 A6, 8 A7, 9 !OE, 11 T, 12 !B7, 13 !B6, 14 !B5, 15 !B4, 16 !B3, 17 !B2, 18 !B1, 19 !B0
part B pins: 10 GND (power), 20 VCC (power)

## 8288-A
designator IC?, comment MICROPROCESSOR/PERIPHERAL DEVICE
OC_FARNELL: unknown; OC_NEWARK: unknown
footprint DIL20
part A pins: 1 IOB, 2 CLK, 3 !S1, 4 DT/!R (out), 5 ALE (out), 6 !AEN, 7 !MRDC (out), 8 !AMWC (out), 9 !MWTC (out), 11 !IOWC (out), 12 !AIOWC (out), 13 !IORC (out), 14 !INTA (out), 15 CEN, 16 DEN (out), 17 MCE/!PDEN (out), 18 !S2, 19 !S0
part B pins: 10 GND (power), 20 VCC (power)

## 8289
designator IC?, comment MICROPROCESSOR/PERIPHERAL DEVICE
OC_FARNELL: unknown; OC_NEWARK: unknown
footprint DIL20
part A pins: 1 !S2, 2 !IOB, 3 SYSB/!RESB, 4 RESB, 5 !BCLK, 6 !INIT, 7 !BREQ (out), 8 !BPRO (out), 9 !BPRN, 11 !BUSY, 12 !CBRQ, 13 !AEN (out), 14 ANYRQST, 15 !CRQLCK, 16 !LOCK, 17 CLK, 18 !S0, 19 !S1
part B pins: 10 GND (power), 20 VCC (power)

## 80186
designator IC?, comment MICROPROCESSOR/PERIPHERAL DEVICE
OC_FARNELL: unknown; OC_NEWARK: unknown
footprint PLCC68
part A pins: 2 ALE/QS0 (out), 3 !RD!/!QSMD (out), 4 !WR!/QS1 (out), 5 !BHE!/S7 (out), 6 A19/S6 (out), 7 A18/S5 (out), 8 A17/S4 (out), 9 A16/S3 (out), 10 AD15, 11 AD7, 12 AD14, 13 AD6, 14 AD13, 15 AD5, 16 AD12, 17 AD4, 19 AD11, 20 AD3, 21 AD10, 22 AD2, 23 AD9, 24 AD1, 25 AD8, 26 AD0, 27 DRQ0, 28 DRQ1, 29 TMRIN0, 30 TMRIN1, 31 TMROUT0 (out), 32 TMROUT1 (out), 33 !RES, 34 !PCS0 (out), 36 !PCS1 (out), 37 !PCS2 (out), 38 !PCS3 (out), 39 !PCS4 (out), 40 !PCS5!/A1 (out), 41 !PCS6!/A2 (out), 42 !LCS (out), 43 !UCS (out), 44 !MCS3 (out), 45 !MCS2 (out), 46 !MCS1 (out), 47 !MCS0 (out), 48 !DEN (out), 49 DT/!R (out), 50 INT3/INTA1, 51 INT2/INTA0, 53 INT1, 54 INT0, 55 NMI, 56 !TEST, 57 !LOCK (out), 58 SRDY, 59 HOLD, 60 HLDA (out), 61 !S0 (out), 62 !S1 (out), 63 !S2 (out), 64 ARDY, 65 CLKOUT (out), 66 RESET (out), 67 X2 (out), 68 X1 (out)
part B pins: 1 GND@2 (power), 18 VCC@1 (power), 35 GND@1 (power), 52 VCC@2 (power)

## 80188
designator IC?, comment MICROPROCESSOR/PERIPHERAL DEVICE
OC_FARNELL: unknown; OC_NEWARK: unknown
footprint PLCC68
part A pins: 2 ALE/QS0 (out), 3 !RD!/!QSMD (out), 4 !WR!/QS1 (out), 5 S7 (out), 6 A19/S6 (out), 7 A18/S5 (out), 8 A17/S4 (out), 9 A16/S3 (out), 10 A15 (out), 11 AD7, 12 A14 (out), 13 AD6, 14 A13 (out), 15 AD5, 16 A12 (out), 17 AD4, 19 A11 (out), 20 AD3, 21 A10 (out), 22 AD2, 23 A9 (out), 24 AD1, 25 A8 (out), 26 AD0, 27 DRQ0, 28 DRQ1, 29 TMRIN0, 30 TMRIN1, 31 TMROUT0 (out), 32 TMROUT1 (out), 33 !RES, 34 !PCS0 (out), 36 !PCS1 (out), 37 !PCS2 (out), 38 !PCS3 (out), 39 !PCS4 (out), 40 !PCS5!/A1 (out), 41 !PCS6!/A2 (out), 42 !LCS (out), 43 !UCS (out), 44 !MCS3 (out), 45 !MCS2 (out), 46 !MCS1 (out), 47 !MCS0 (out), 48 !DEN (out), 49 DT/!R (out), 50 INT3, 51 INT2, 53 INT1, 54 INT0, 55 NMI, 56 !TEST, 57 !LOCK (out), 58 SRDY (out), 59 HOLD, 60 HLDA (out), 61 !S0 (out), 62 !S1 (out), 63 !S2 (out), 64 ARDY (out), 65 CLKOUT (out), 66 RESET (out), 67 X2 (out), 68 X1 (out)
part B pins: 1 GND@2 (power), 18 VCC@1 (power), 35 GND@1 (power), 52 VCC@2 (power)

## 80286-A
designator IC?, comment MICROPROCESSOR/PERIPHERAL DEVICE
OC_FARNELL: unknown; OC_NEWARK: unknown
footprint PGA68
part A pins: 1 !BHE (out), 2 NC@1, 3 NC@2, 4 !S1 (out), 5 !S0 (out), 6 !PEACK (out), 7 A23 (out), 8 A22 (out), 10 A21 (out), 11 A20 (out), 12 A19 (out), 13 A18 (out), 14 A17 (out), 15 A16 (out), 16 A15 (out), 17 A14 (out), 18 A13 (out), 19 A12 (out), 20 A11 (out), 21 A10 (out), 22 A9 (out), 23 A8 (out), 24 A7 (out), 25 A6 (out), 26 A5 (out), 27 A4 (out), 28 A3 (out), 29 RESET, 31 CLK, 32 A2 (out), 33 A1 (out), 34 A0 (out), 36 D0, 37 D8, 38 D1, 39 D9, 40 D2, 41 D10, 42 D3, 43 D11, 44 D4, 45 D12, 46 D5, 47 D13, 48 D6, 49 D14, 50 D7, 51 D15, 52 CAP, 53 !ERROR, 54 !BUSY, 55 NC@3, 56 NC@4, 57 INTR, 58 NC@5, 59 NMI, 61 PEREQ, 63 !READY, 64 HOLD, 65 HLDA (out), 66 COD/!INTA (out), 67 M/!IO (out), 68 !LOCK (out)
part B pins: 9 GND@1 (power), 30 VCC@1 (power), 35 GND@2 (power), 60 GND@3 (power), 62 VCC@2 (power)

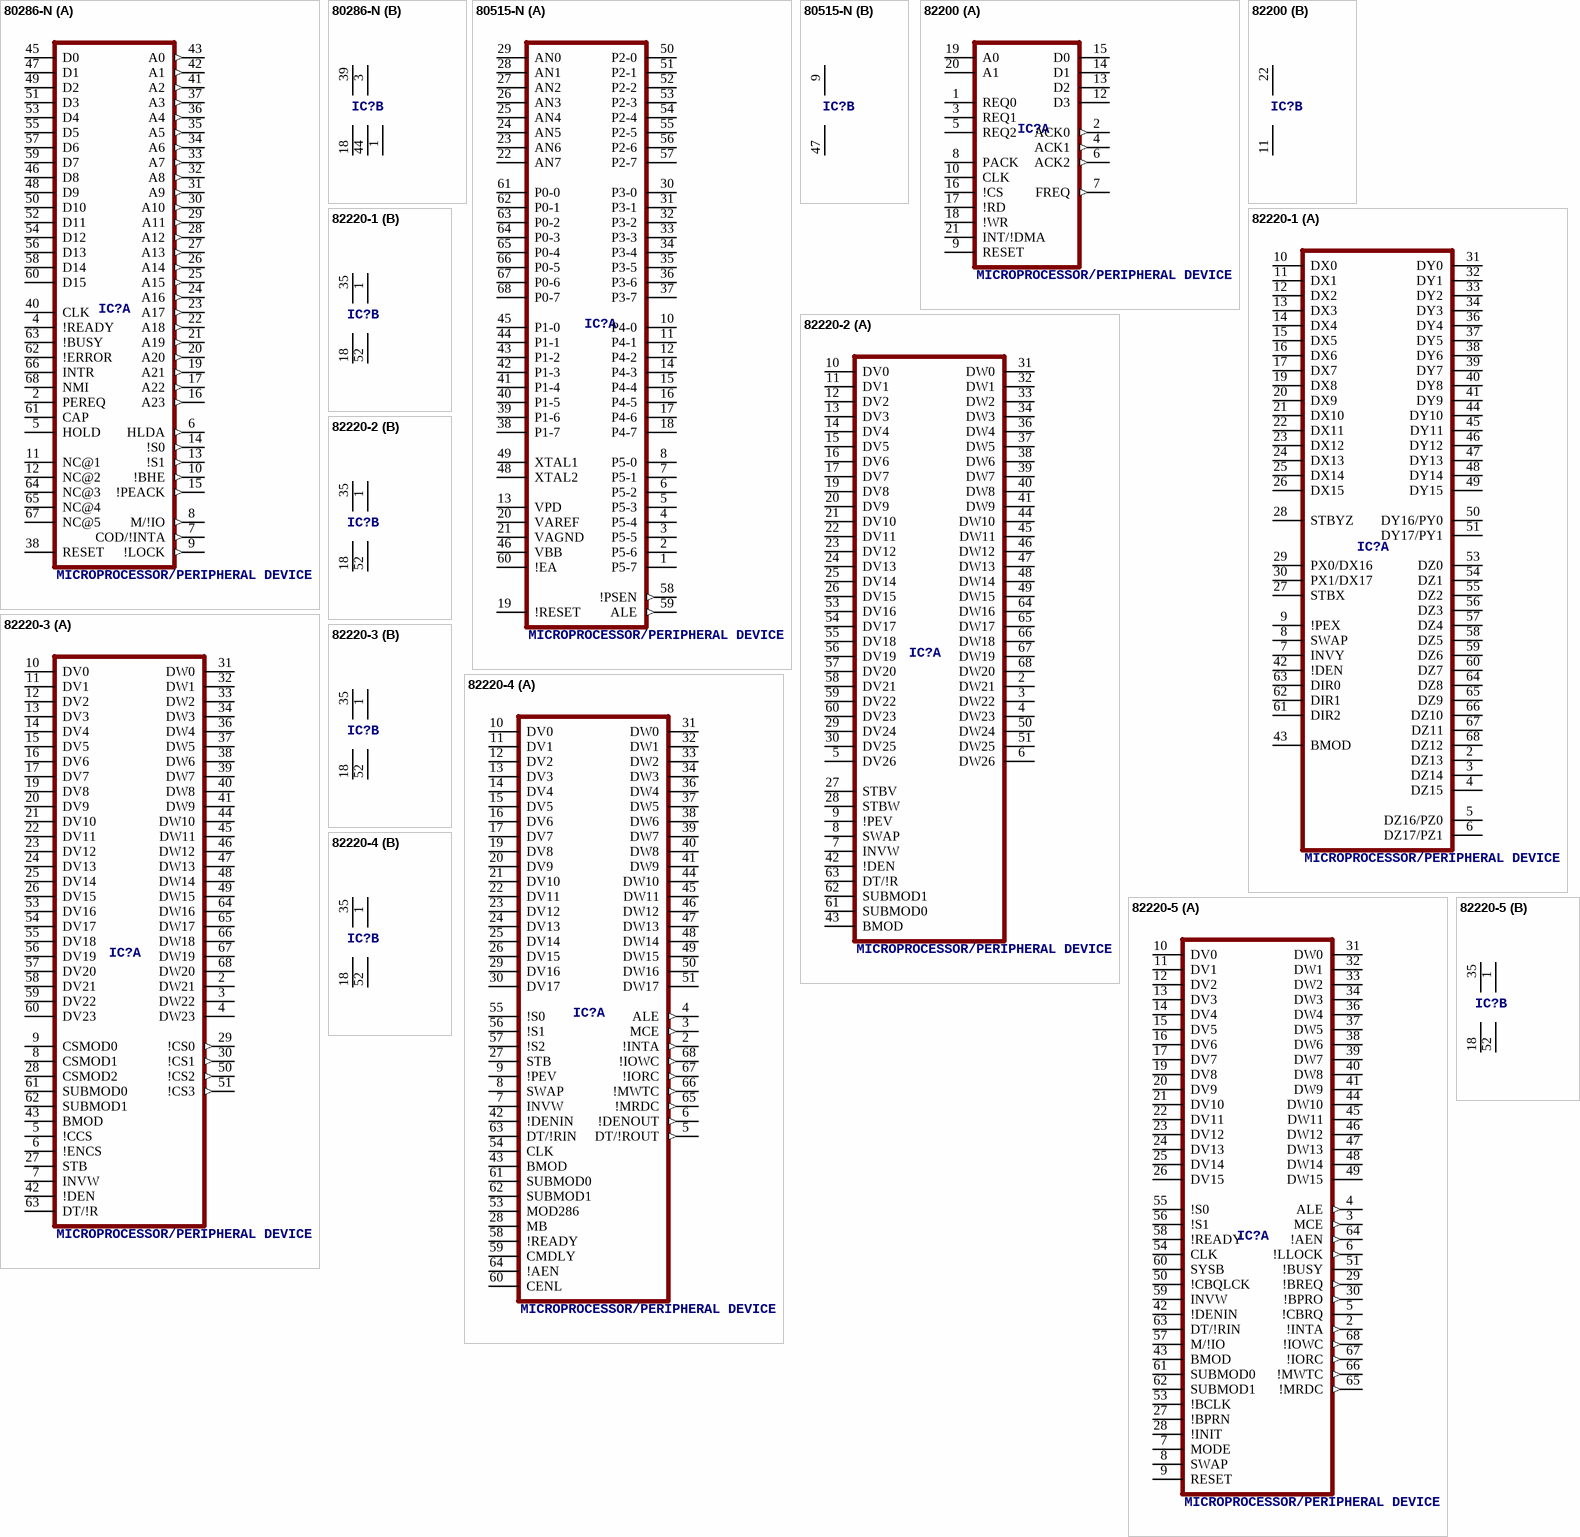
[diagram p6: symbols 80286-N to 82220-5]

## 80286-N
designator IC?, comment MICROPROCESSOR/PERIPHERAL DEVICE
OC_FARNELL: unknown; OC_NEWARK: unknown
footprint PLCC68
part A pins: 2 PEREQ, 4 !READY, 5 HOLD, 6 HLDA (out), 7 COD/!INTA (out), 8 M/!IO (out), 9 !LOCK (out), 10 !BHE (out), 11 NC@1, 12 NC@2, 13 !S1 (out), 14 !S0 (out), 15 !PEACK (out), 16 A23 (out), 17 A22 (out), 19 A21 (out), 20 A20 (out), 21 A19 (out), 22 A18 (out), 23 A17 (out), 24 A16 (out), 25 A15 (out), 26 A14 (out), 27 A13 (out), 28 A12 (out), 29 A11 (out), 30 A10 (out), 31 A9 (out), 32 A8 (out), 33 A7 (out), 34 A6 (out), 35 A5 (out), 36 A4 (out), 37 A3 (out), 38 RESET, 40 CLK, 41 A2 (out), 42 A1 (out), 43 A0 (out), 45 D0, 46 D8, 47 D1, 48 D9, 49 D2, 50 D10, 51 D3, 52 D11, 53 D4, 54 D12, 55 D5, 56 D13, 57 D6, 58 D14, 59 D7, 60 D15, 61 CAP, 62 !ERROR, 63 !BUSY, 64 NC@3, 65 NC@4, 66 INTR, 67 NC@5, 68 NMI
part B pins: 1 GND@3 (power), 3 VCC@2 (power), 18 GND@1 (power), 39 VCC@1 (power), 44 GND@2 (power)

## 80515-N
designator IC?, comment MICROPROCESSOR/PERIPHERAL DEVICE
OC_FARNELL: unknown; OC_NEWARK: unknown
footprint PLCC68
part A pins: 1 P5-7, 2 P5-6, 3 P5-5, 4 P5-4, 5 P5-3, 6 P5-2, 7 P5-1, 8 P5-0, 10 P4-0, 11 P4-1, 12 P4-2, 13 VPD, 14 P4-3, 15 P4-4, 16 P4-5, 17 P4-6, 18 P4-7, 19 !RESET, 20 VAREF, 21 VAGND, 22 AN7, 23 AN6, 24 AN5, 25 AN4, 26 AN3, 27 AN2, 28 AN1, 29 AN0, 30 P3-0, 31 P3-1, 32 P3-2, 33 P3-3, 34 P3-4, 35 P3-5, 36 P3-6, 37 P3-7, 38 P1-7, 39 P1-6, 40 P1-5, 41 P1-4, 42 P1-3, 43 P1-2, 44 P1-1, 45 P1-0, 46 VBB, 48 XTAL2, 49 XTAL1, 50 P2-0, 51 P2-1, 52 P2-2, 53 P2-3, 54 P2-4, 55 P2-5, 56 P2-6, 57 P2-7, 58 !PSEN (out), 59 ALE (out), 60 !EA, 61 P0-0, 62 P0-1, 63 P0-2, 64 P0-3, 65 P0-4, 66 P0-5, 67 P0-6, 68 P0-7
part B pins: 9 VCC (power), 47 VSS (power)

## 82200
designator IC?, comment MICROPROCESSOR/PERIPHERAL DEVICE
OC_FARNELL: unknown; OC_NEWARK: unknown
footprint DIL22-3
part A pins: 1 REQ0, 2 ACK0 (out), 3 REQ1, 4 ACK1 (out), 5 REQ2, 6 ACK2 (out), 7 FREQ (out), 8 PACK, 9 RESET, 10 CLK, 12 D3, 13 D2, 14 D1, 15 D0, 16 !CS, 17 !RD, 18 !WR, 19 A0, 20 A1, 21 INT/!DMA
part B pins: 11 GND (power), 22 VCC (power)

## 82220-1
designator IC?, comment MICROPROCESSOR/PERIPHERAL DEVICE
OC_FARNELL: unknown; OC_NEWARK: unknown
footprint PLCC68
part A pins: 2 DZ13, 3 DZ14, 4 DZ15, 5 DZ16/PZ0, 6 DZ17/PZ1, 7 INVY, 8 SWAP, 9 !PEX, 10 DX0, 11 DX1, 12 DX2, 13 DX3, 14 DX4, 15 DX5, 16 DX6, 17 DX7, 19 DX8, 20 DX9, 21 DX10, 22 DX11, 23 DX12, 24 DX13, 25 DX14, 26 DX15, 27 STBX, 28 STBYZ, 29 PX0/DX16, 30 PX1/DX17, 31 DY0, 32 DY1, 33 DY2, 34 DY3, 36 DY4, 37 DY5, 38 DY6, 39 DY7, 40 DY8, 41 DY9, 42 !DEN, 43 BMOD, 44 DY10, 45 DY11, 46 DY12, 47 DY13, 48 DY14, 49 DY15, 50 DY16/PY0, 51 DY17/PY1, 53 DZ0, 54 DZ1, 55 DZ2, 56 DZ3, 57 DZ4, 58 DZ5, 59 DZ6, 60 DZ7, 61 DIR2, 62 DIR1, 63 DIR0, 64 DZ8, 65 DZ9, 66 DZ10, 67 DZ11, 68 DZ12
part B pins: 1 VCC@2 (power), 18 GND@1 (power), 35 VCC@1 (power), 52 GND@2 (power)

## 82220-2
designator IC?, comment MICROPROCESSOR/PERIPHERAL DEVICE
OC_FARNELL: unknown; OC_NEWARK: unknown
footprint PLCC68
part A pins: 2 DW21, 3 DW22, 4 DW23, 5 DV26, 6 DW26, 7 INVW, 8 SWAP, 9 !PEV, 10 DV0, 11 DV1, 12 DV2, 13 DV3, 14 DV4, 15 DV5, 16 DV6, 17 DV7, 19 DV8, 20 DV9, 21 DV10, 22 DV11, 23 DV12, 24 DV13, 25 DV14, 26 DV15, 27 STBV, 28 STBW, 29 DV24, 30 DV25, 31 DW0, 32 DW1, 33 DW2, 34 DW3, 36 DW4, 37 DW5, 38 DW6, 39 DW7, 40 DW8, 41 DW9, 42 !DEN, 43 BMOD, 44 DW10, 45 DW11, 46 DW12, 47 DW13, 48 DW14, 49 DW15, 50 DW24, 51 DW25, 53 DV16, 54 DV17, 55 DV18, 56 DV19, 57 DV20, 58 DV21, 59 DV22, 60 DV23, 61 SUBMOD0, 62 SUBMOD1, 63 DT/!R, 64 DW16, 65 DW17, 66 DW18, 67 DW19, 68 DW20
part B pins: 1 VCC@2 (power), 18 GND@1 (power), 35 VCC@1 (power), 52 GND@2 (power)

## 82220-3
designator IC?, comment MICROPROCESSOR/PERIPHERAL DEVICE
OC_FARNELL: unknown; OC_NEWARK: unknown
footprint PLCC68
part A pins: 2 DW21, 3 DW22, 4 DW23, 5 !CCS, 6 !ENCS, 7 INVW, 8 CSMOD1, 9 CSMOD0, 10 DV0, 11 DV1, 12 DV2, 13 DV3, 14 DV4, 15 DV5, 16 DV6, 17 DV7, 19 DV8, 20 DV9, 21 DV10, 22 DV11, 23 DV12, 24 DV13, 25 DV14, 26 DV15, 27 STB, 28 CSMOD2, 29 !CS0 (out), 30 !CS1 (out), 31 DW0, 32 DW1, 33 DW2, 34 DW3, 36 DW4, 37 DW5, 38 DW6, 39 DW7, 40 DW8, 41 DW9, 42 !DEN, 43 BMOD, 44 DW10, 45 DW11, 46 DW12, 47 DW13, 48 DW14, 49 DW15, 50 !CS2 (out), 51 !CS3 (out), 53 DV16, 54 DV17, 55 DV18, 56 DV19, 57 DV20, 58 DV21, 59 DV22, 60 DV23, 61 SUBMOD0, 62 SUBMOD1, 63 DT/!R, 64 DW16, 65 DW17, 66 DW18, 67 DW19, 68 DW20
part B pins: 1 VCC@2 (power), 18 GND@1 (power), 35 VCC@1 (power), 52 GND@2 (power)

## 82220-4
designator IC?, comment MICROPROCESSOR/PERIPHERAL DEVICE
OC_FARNELL: unknown; OC_NEWARK: unknown
footprint PLCC68
part A pins: 2 !INTA (out), 3 MCE (out), 4 ALE (out), 5 DT/!ROUT (out), 6 !DENOUT (out), 7 INVW, 8 SWAP, 9 !PEV, 10 DV0, 11 DV1, 12 DV2, 13 DV3, 14 DV4, 15 DV5, 16 DV6, 17 DV7, 19 DV8, 20 DV9, 21 DV10, 22 DV11, 23 DV12, 24 DV13, 25 DV14, 26 DV15, 27 STB, 28 MB, 29 DV16, 30 DV17, 31 DW0, 32 DW1, 33 DW2, 34 DW3, 36 DW4, 37 DW5, 38 DW6, 39 DW7, 40 DW8, 41 DW9, 42 !DENIN, 43 BMOD, 44 DW10, 45 DW11, 46 DW12, 47 DW13, 48 DW14, 49 DW15, 50 DW16, 51 DW17, 53 MOD286, 54 CLK, 55 !S0, 56 !S1, 57 !S2, 58 !READY, 59 CMDLY, 60 CENL, 61 SUBMOD0, 62 SUBMOD1, 63 DT/!RIN, 64 !AEN, 65 !MRDC (out), 66 !MWTC (out), 67 !IORC (out), 68 !IOWC (out)
part B pins: 1 VCC@2 (power), 18 GND@1 (power), 35 VCC@1 (power), 52 GND@2 (power)

## 82220-5
designator IC?, comment MICROPROCESSOR/PERIPHERAL DEVICE
OC_FARNELL: unknown; OC_NEWARK: unknown
footprint PLCC68
part A pins: 2 !INTA (out), 3 MCE (out), 4 ALE (out), 5 !CBRQ, 6 !LLOCK (out), 7 MODE, 8 SWAP, 9 RESET, 10 DV0, 11 DV1, 12 DV2, 13 DV3, 14 DV4, 15 DV5, 16 DV6, 17 DV7, 19 DV8, 20 DV9, 21 DV10, 22 DV11, 23 DV12, 24 DV13, 25 DV14, 26 DV15, 27 !BPRN, 28 !INIT, 29 !BREQ (out), 30 !BPRO (out), 31 DW0, 32 DW1, 33 DW2, 34 DW3, 36 DW4, 37 DW5, 38 DW6, 39 DW7, 40 DW8, 41 DW9, 42 !DENIN, 43 BMOD, 44 DW10, 45 DW11, 46 DW12, 47 DW13, 48 DW14, 49 DW15, 50 !CBQLCK, 51 !BUSY, 53 !BCLK, 54 CLK, 55 !S0, 56 !S1, 57 M/!IO, 58 !READY, 59 INVW, 60 SYSB, 61 SUBMOD0, 62 SUBMOD1, 63 DT/!RIN, 64 !AEN (out), 65 !MRDC (out), 66 !MWTC (out), 67 !IORC (out), 68 !IOWC (out)
part B pins: 1 VCC@2 (power), 18 GND@1 (power), 35 VCC@1 (power), 52 GND@2 (power)

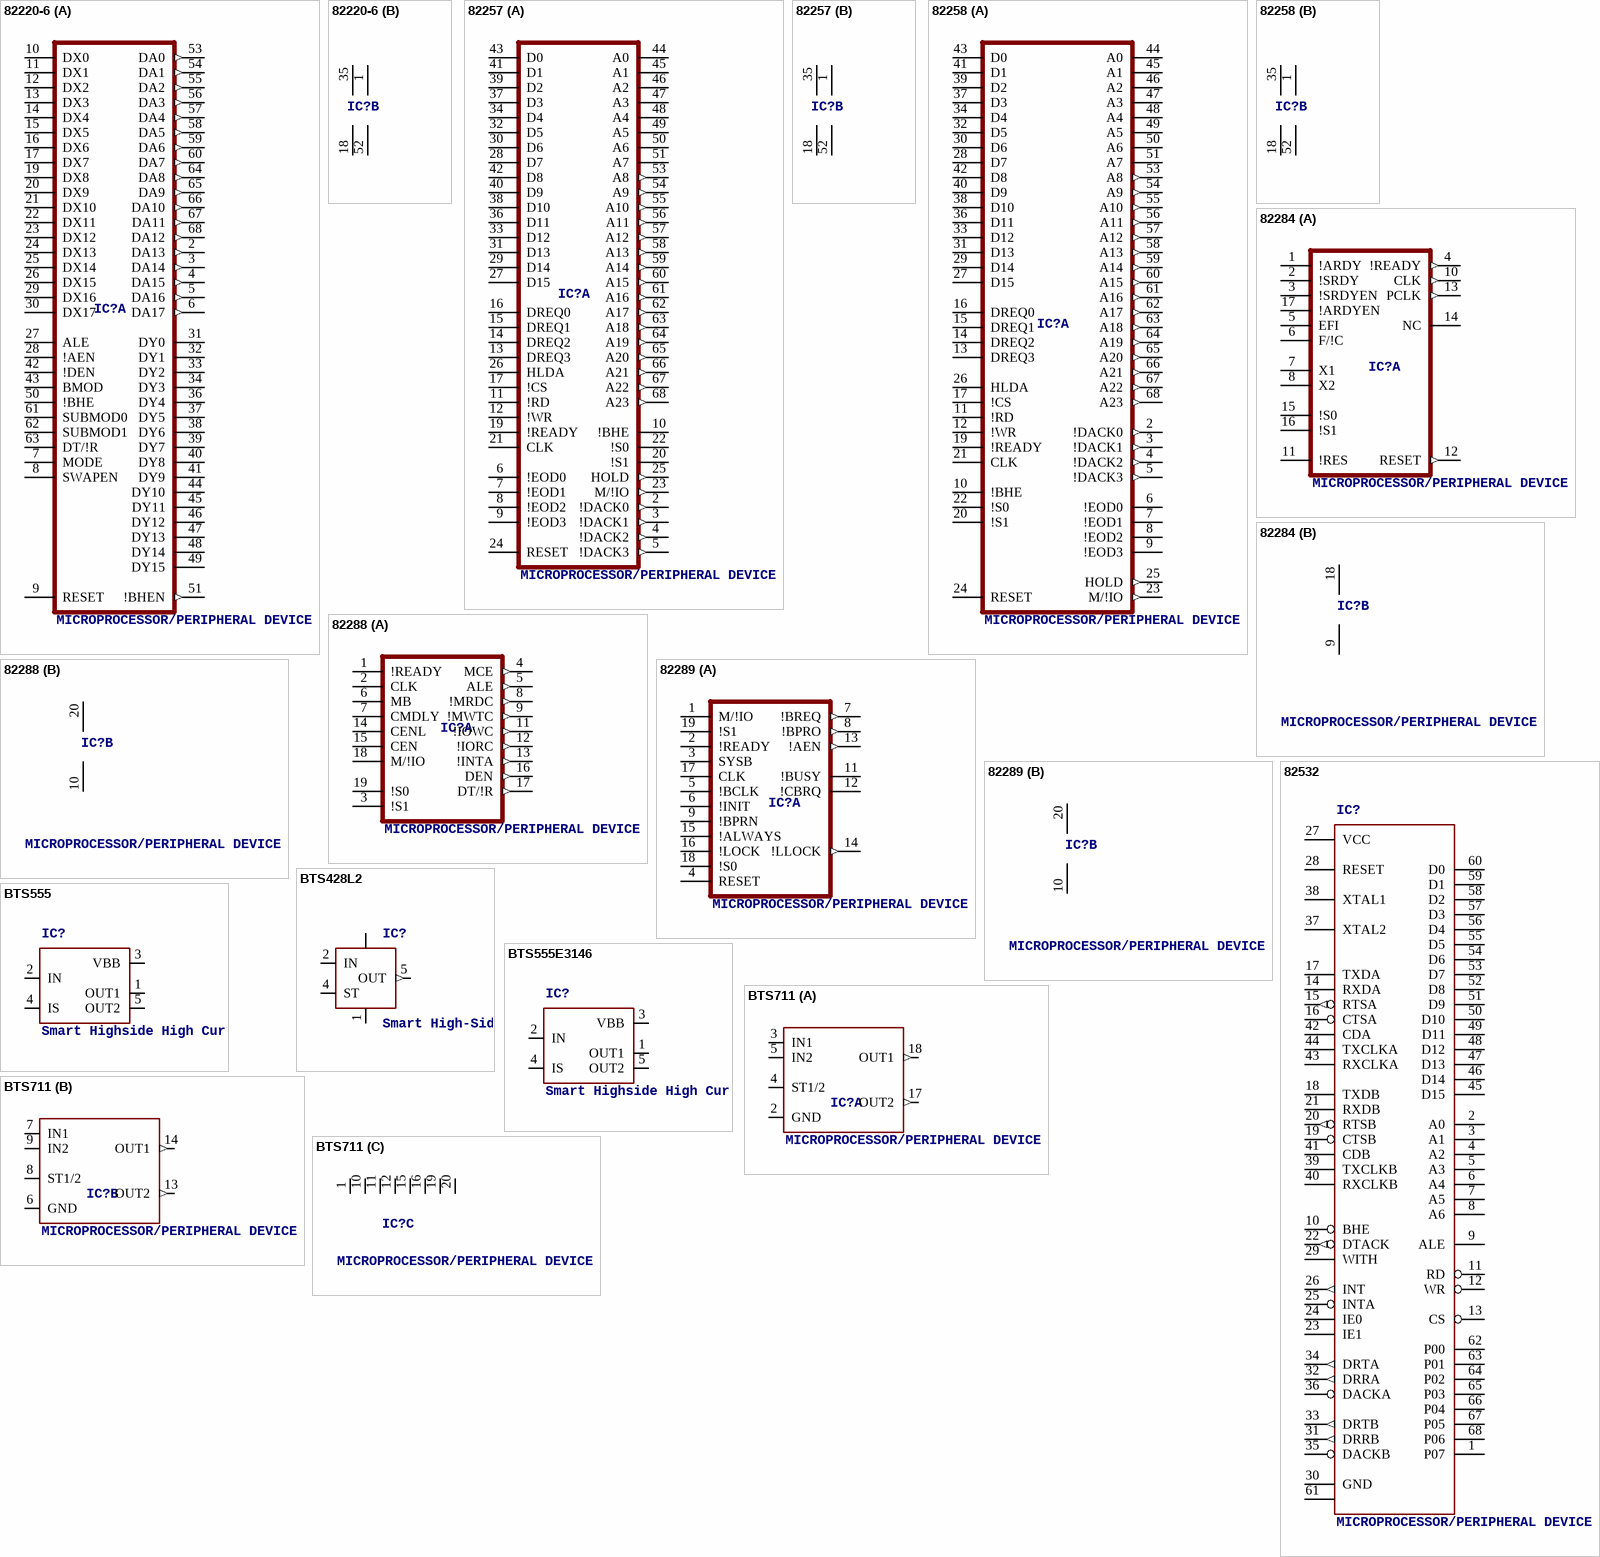
[diagram p7: symbols 82220-6 to BTS711]

## 82220-6
designator IC?, comment MICROPROCESSOR/PERIPHERAL DEVICE
OC_FARNELL: unknown; OC_NEWARK: unknown
footprint PLCC68
part A pins: 2 DA13 (out), 3 DA14 (out), 4 DA15 (out), 5 DA16 (out), 6 DA17 (out), 7 MODE, 8 SWAPEN, 9 RESET, 10 DX0, 11 DX1, 12 DX2, 13 DX3, 14 DX4, 15 DX5, 16 DX6, 17 DX7, 19 DX8, 20 DX9, 21 DX10, 22 DX11, 23 DX12, 24 DX13, 25 DX14, 26 DX15, 27 ALE, 28 !AEN, 29 DX16, 30 DX17, 31 DY0, 32 DY1, 33 DY2, 34 DY3, 36 DY4, 37 DY5, 38 DY6, 39 DY7, 40 DY8, 41 DY9, 42 !DEN, 43 BMOD, 44 DY10, 45 DY11, 46 DY12, 47 DY13, 48 DY14, 49 DY15, 50 !BHE, 51 !BHEN (out), 53 DA0 (out), 54 DA1 (out), 55 DA2 (out), 56 DA3 (out), 57 DA4 (out), 58 DA5 (out), 59 DA6 (out), 60 DA7 (out), 61 SUBMOD0, 62 SUBMOD1, 63 DT/!R, 64 DA8 (out), 65 DA9 (out), 66 DA10 (out), 67 DA11 (out), 68 DA12 (out)
part B pins: 1 VCC@2 (power), 18 GND@1 (power), 35 VCC@1 (power), 52 GND@2 (power)

## 82257
designator IC?, comment MICROPROCESSOR/PERIPHERAL DEVICE
OC_FARNELL: unknown; OC_NEWARK: unknown
footprint PLCC68
part A pins: 2 !DACK0 (out), 3 !DACK1 (out), 4 !DACK2 (out), 5 !DACK3 (out), 6 !EOD0, 7 !EOD1, 8 !EOD2, 9 !EOD3, 10 !BHE, 11 !RD, 12 !WR, 13 DREQ3, 14 DREQ2, 15 DREQ1, 16 DREQ0, 17 !CS, 19 !READY, 20 !S1, 21 CLK, 22 !S0, 23 M/!IO (out), 24 RESET, 25 HOLD (out), 26 HLDA, 27 D15, 28 D7, 29 D14, 30 D6, 31 D13, 32 D5, 33 D12, 34 D4, 36 D11, 37 D3, 38 D10, 39 D2, 40 D9, 41 D1, 42 D8, 43 D0, 44 A0, 45 A1, 46 A2, 47 A3, 48 A4, 49 A5, 50 A6, 51 A7, 53 A8 (out), 54 A9 (out), 55 A10 (out), 56 A11 (out), 57 A12 (out), 58 A13 (out), 59 A14 (out), 60 A15 (out), 61 A16 (out), 62 A17 (out), 63 A18 (out), 64 A19 (out), 65 A20 (out), 66 A21 (out), 67 A22 (out), 68 A23 (out)
part B pins: 1 VCC@2 (power), 18 GND@1 (power), 35 VCC@1 (power), 52 GND@2 (power)

## 82258
designator IC?, comment MICROPROCESSOR/PERIPHERAL DEVICE
OC_FARNELL: unknown; OC_NEWARK: unknown
footprint PLCC68
part A pins: 2 !DACK0 (out), 3 !DACK1 (out), 4 !DACK2 (out), 5 !DACK3 (out), 6 !EOD0, 7 !EOD1, 8 !EOD2, 9 !EOD3, 10 !BHE, 11 !RD, 12 !WR, 13 DREQ3, 14 DREQ2, 15 DREQ1, 16 DREQ0, 17 !CS, 19 !READY, 20 !S1, 21 CLK, 22 !S0, 23 M/!IO (out), 24 RESET, 25 HOLD (out), 26 HLDA, 27 D15, 28 D7, 29 D14, 30 D6, 31 D13, 32 D5, 33 D12, 34 D4, 36 D11, 37 D3, 38 D10, 39 D2, 40 D9, 41 D1, 42 D8, 43 D0, 44 A0, 45 A1, 46 A2, 47 A3, 48 A4, 49 A5, 50 A6, 51 A7, 53 A8 (out), 54 A9 (out), 55 A10 (out), 56 A11 (out), 57 A12 (out), 58 A13 (out), 59 A14 (out), 60 A15 (out), 61 A16 (out), 62 A17 (out), 63 A18 (out), 64 A19 (out), 65 A20 (out), 66 A21 (out), 67 A22 (out), 68 A23 (out)
part B pins: 1 VCC@2 (power), 18 GND@1 (power), 35 VCC@1 (power), 52 GND@2 (power)

## 82284
designator IC?, comment MICROPROCESSOR/PERIPHERAL DEVICE
OC_FARNELL: unknown; OC_NEWARK: unknown
footprint DIL18
part A pins: 1 !ARDY, 2 !SRDY, 3 !SRDYEN, 4 !READY (out), 5 EFI, 6 F/!C, 7 X1, 8 X2, 10 CLK (out), 11 !RES, 12 RESET (out), 13 PCLK (out), 14 NC, 15 !S0, 16 !S1, 17 !ARDYEN
part B pins: 9 GND (power), 18 VCC (power)

## 82288
designator IC?, comment MICROPROCESSOR/PERIPHERAL DEVICE
OC_FARNELL: unknown; OC_NEWARK: unknown
footprint DIL20
part A pins: 1 !READY, 2 CLK, 3 !S1, 4 MCE (out), 5 ALE (out), 6 MB, 7 CMDLY, 8 !MRDC (out), 9 !MWTC (out), 11 !IOWC (out), 12 !IORC (out), 13 !INTA (out), 14 CENL, 15 CEN, 16 DEN (out), 17 DT/!R (out), 18 M/!IO, 19 !S0
part B pins: 10 GND (power), 20 VCC (power)

## 82289
designator IC?, comment MICROPROCESSOR/PERIPHERAL DEVICE
OC_FARNELL: unknown; OC_NEWARK: unknown
footprint DIL20
part A pins: 1 M/!IO, 2 !READY, 3 SYSB, 4 RESET, 5 !BCLK, 6 !INIT, 7 !BREQ (out), 8 !BPRO (out), 9 !BPRN, 11 !BUSY, 12 !CBRQ, 13 !AEN (out), 14 !LLOCK (out), 15 !ALWAYS, 16 !LOCK, 17 CLK, 18 !S0, 19 !S1
part B pins: 10 GND (power), 20 VCC (power)

## 82532
designator IC?, comment MICROPROCESSOR/PERIPHERAL DEVICE
OC_FARNELL: unknown; OC_NEWARK: unknown
footprint PLCC68
pins: 1 P07, 2 A0, 3 A1, 4 A2, 5 A3, 6 A4, 7 A5, 8 A6, 9 ALE, 10 BHE, 11 RD, 12 WR, 13 CS, 14 RXDA, 15 RTSA (out), 16 CTSA, 17 TXDA, 18 TXDB, 19 CTSB, 20 RTSB (out), 21 RXDB, 22 DTACK (out), 23 IE1, 24 IE0, 25 INTA, 26 INT (out), 27 VCC (power), 28 RESET, 29 WITH, 30 GND (power), 31 DRRB (out), 32 DRRA (out), 33 DRTB (out), 34 DRTA (out), 35 DACKB, 36 DACKA, 37 XTAL2, 38 XTAL1, 39 TXCLKB, 40 RXCLKB, 41 CDB, 42 CDA, 43 RXCLKA, 44 TXCLKA, 45 D15, 46 D14, 47 D13, 48 D12, 49 D11, 50 D10, 51 D9, 52 D8, 53 D7, 54 D6, 55 D5, 56 D4, 57 D3, 58 D2, 59 D1, 60 D0, 61 GND@1 (power), 62 P00, 63 P01, 64 P02, 65 P03, 66 P04, 67 P05, 68 P06

## BTS428L2
designator IC?, comment Smart High-Side Power Switch   One Channel: 60mOhm Status Feedback Source: Source: www.infineon.com .. BTS428L2_20030912.pdf
OC_FARNELL: unknown; OC_NEWARK: unknown
footprint TO252-5-11
pins: 1 GND (power), 2 IN, 4 ST, 5 OUT (out), TAB VBB (power)

## BTS555
designator IC?, comment Smart Highside High Current Power Switch PROFET®   Source: http://www.infineon.com/upload/Document/cmc_upload/documents/011/8726/Datasheet_BTS555.pdf
MF: FARNELL; MPN: BTS555.; OC_FARNELL: 4109260; OC_NEWARK: 26H6766
footprint TO220-51
pins: 1 OUT1, 2 IN, 3 VBB, 4 IS, 5 OUT2

## BTS555E3146
designator IC?, comment Smart Highside High Current Power Switch PROFET®   Source: http://www.infineon.com/upload/Document/cmc_upload/documents/011/8726/Datasheet_BTS555.pdf
OC_FARNELL: unknown; OC_NEWARK: unknown
footprint TO220-52
pins: 1 OUT1, 2 IN, 3 VBB, 4 IS, 5 OUT2

## BTS711
designator IC?, comment MICROPROCESSOR/PERIPHERAL DEVICE
MPN: BTS711L1.; MF: FARNELL; OC_FARNELL: 743380; OC_NEWARK: 46WX1412
footprint PDSO_20-9
part A pins: 2 GND (power), 3 IN1, 4 ST1/2 (oc), 5 IN2, 17 OUT2 (out), 18 OUT1 (out)
part B pins: 6 GND (power), 7 IN1, 8 ST1/2 (oc), 9 IN2, 13 OUT2 (out), 14 OUT1 (out)
part C pins: 1 +VBB@1 (power), 10 +VBB@2 (power), 11 +VBB@3 (power), 12 +VBB@4 (power), 15 +VBB@5 (power), 16 +VBB@6 (power), 19 +VBB@7 (power), 20 +VBB@8 (power)

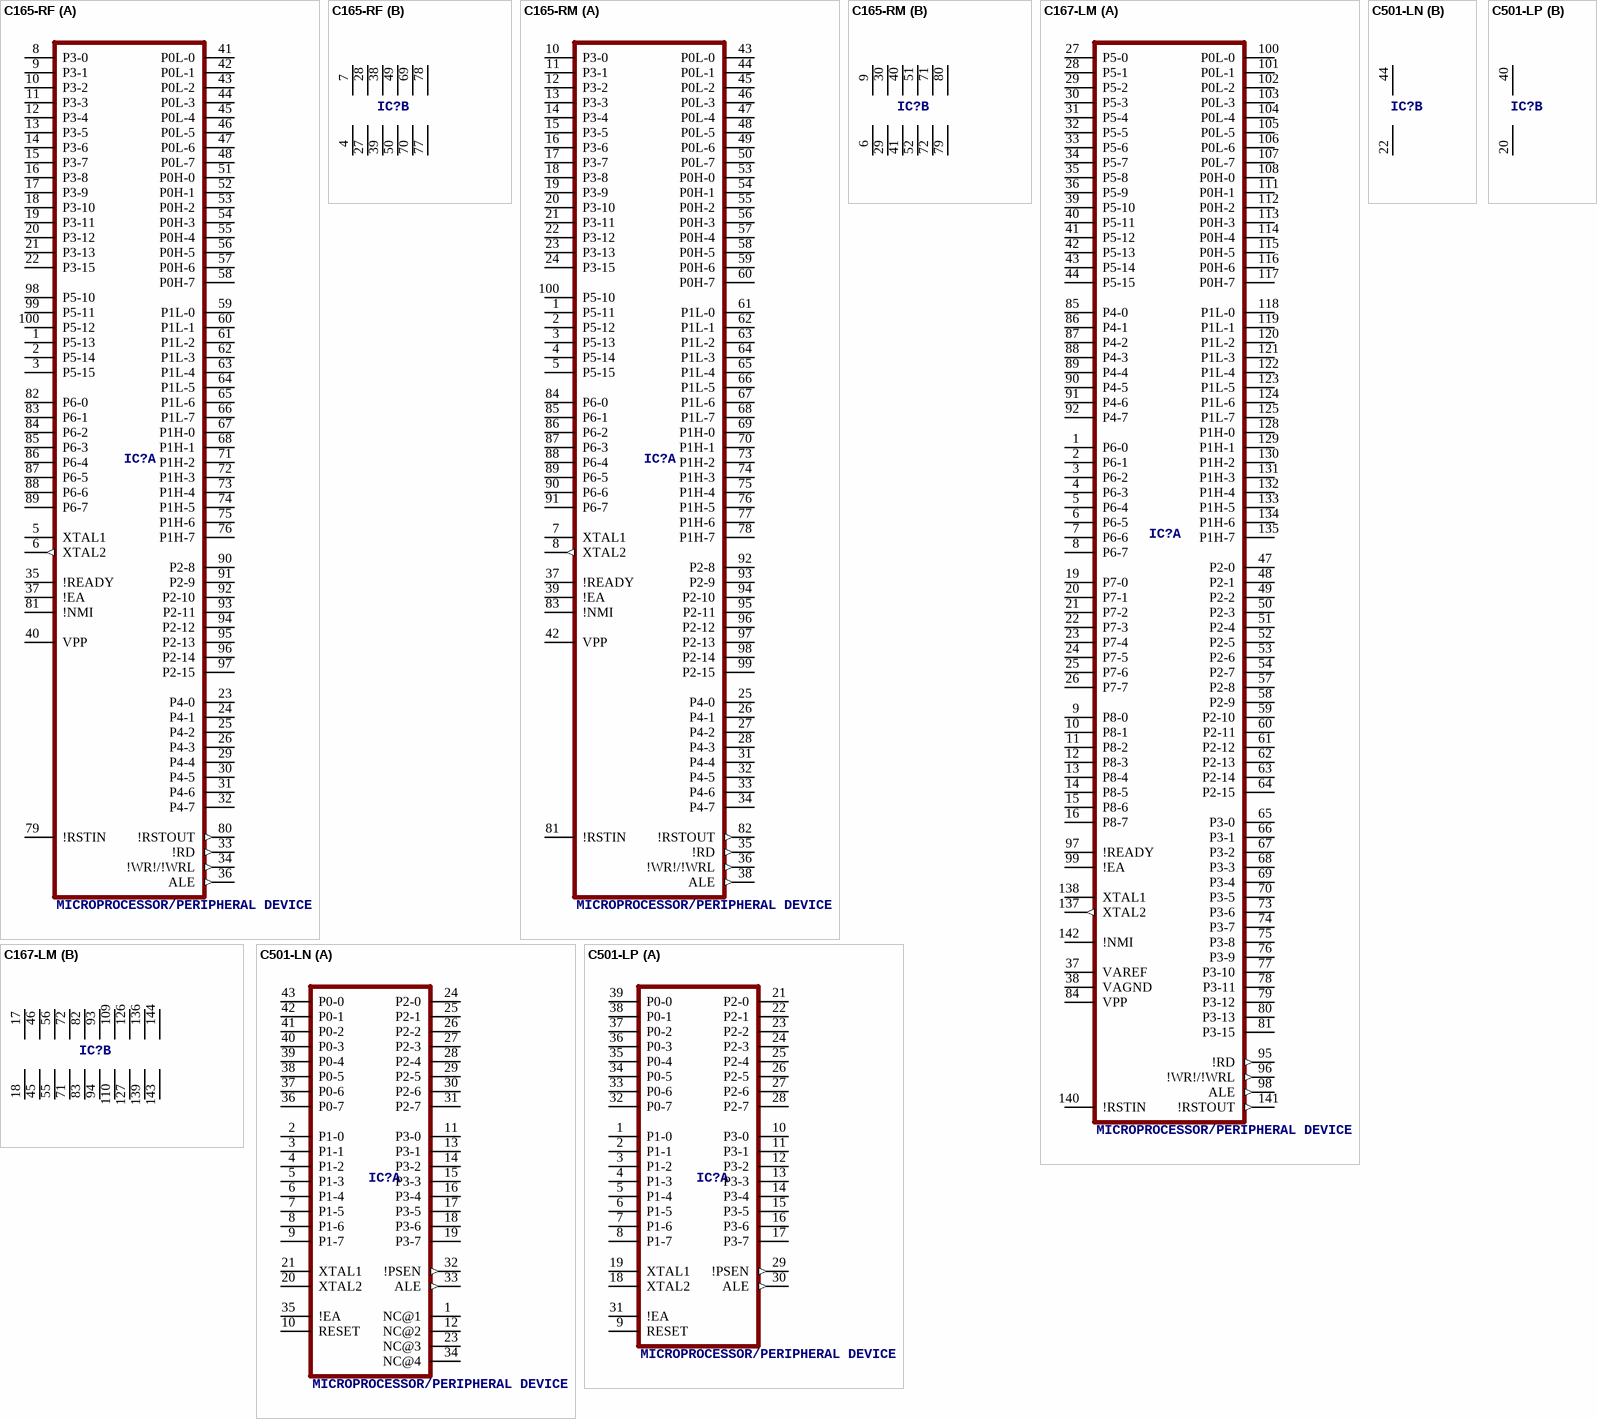
[diagram p8: symbols C165-RF to C501-LP]

## C165-RF
designator IC?, comment MICROPROCESSOR/PERIPHERAL DEVICE
OC_FARNELL: 1472708; OC_NEWARK: unknown
footprint TQFP100
part A pins: 1 P5-13, 2 P5-14, 3 P5-15, 5 XTAL1, 6 XTAL2 (out), 8 P3-0, 9 P3-1, 10 P3-2, 11 P3-3, 12 P3-4, 13 P3-5, 14 P3-6, 15 P3-7, 16 P3-8, 17 P3-9, 18 P3-10, 19 P3-11, 20 P3-12, 21 P3-13, 22 P3-15, 23 P4-0, 24 P4-1, 25 P4-2, 26 P4-3, 29 P4-4, 30 P4-5, 31 P4-6, 32 P4-7, 33 !RD (out), 34 !WR!/!WRL (out), 35 !READY, 36 ALE (out), 37 !EA, 40 VPP, 41 P0L-0, 42 P0L-1, 43 P0L-2, 44 P0L-3, 45 P0L-4, 46 P0L-5, 47 P0L-6, 48 P0L-7, 51 P0H-0, 52 P0H-1, 53 P0H-2, 54 P0H-3, 55 P0H-4, 56 P0H-5, 57 P0H-6, 58 P0H-7, 59 P1L-0, 60 P1L-1, 61 P1L-2, 62 P1L-3, 63 P1L-4, 64 P1L-5, 65 P1L-6, 66 P1L-7, 67 P1H-0, 68 P1H-1, 71 P1H-2, 72 P1H-3, 73 P1H-4, 74 P1H-5, 75 P1H-6, 76 P1H-7, 79 !RSTIN, 80 !RSTOUT (out), 81 !NMI, 82 P6-0, 83 P6-1, 84 P6-2, 85 P6-3, 86 P6-4, 87 P6-5, 88 P6-6, 89 P6-7, 90 P2-8, 91 P2-9, 92 P2-10, 93 P2-11, 94 P2-12, 95 P2-13, 96 P2-14, 97 P2-15, 98 P5-10, 99 P5-11, 100 P5-12
part B pins: 4 VSS@1 (power), 7 VCC@1 (power), 27 VSS@2 (power), 28 VCC@2 (power), 38 VCC@3 (power), 39 VSS@3 (power), 49 VCC@4 (power), 50 VSS@4 (power), 69 VCC@5 (power), 70 VSS@5 (power), 77 VSS@6 (power), 78 VCC@6 (power)

## C165-RM
designator IC?, comment MICROPROCESSOR/PERIPHERAL DEVICE
OC_FARNELL: unknown; OC_NEWARK: unknown
footprint MQFP100
part A pins: 1 P5-11, 2 P5-12, 3 P5-13, 4 P5-14, 5 P5-15, 7 XTAL1, 8 XTAL2 (out), 10 P3-0, 11 P3-1, 12 P3-2, 13 P3-3, 14 P3-4, 15 P3-5, 16 P3-6, 17 P3-7, 18 P3-8, 19 P3-9, 20 P3-10, 21 P3-11, 22 P3-12, 23 P3-13, 24 P3-15, 25 P4-0, 26 P4-1, 27 P4-2, 28 P4-3, 31 P4-4, 32 P4-5, 33 P4-6, 34 P4-7, 35 !RD (out), 36 !WR!/!WRL (out), 37 !READY, 38 ALE (out), 39 !EA, 42 VPP, 43 P0L-0, 44 P0L-1, 45 P0L-2, 46 P0L-3, 47 P0L-4, 48 P0L-5, 49 P0L-6, 50 P0L-7, 53 P0H-0, 54 P0H-1, 55 P0H-2, 56 P0H-3, 57 P0H-4, 58 P0H-5, 59 P0H-6, 60 P0H-7, 61 P1L-0, 62 P1L-1, 63 P1L-2, 64 P1L-3, 65 P1L-4, 66 P1L-5, 67 P1L-6, 68 P1L-7, 69 P1H-0, 70 P1H-1, 73 P1H-2, 74 P1H-3, 75 P1H-4, 76 P1H-5, 77 P1H-6, 78 P1H-7, 81 !RSTIN, 82 !RSTOUT (out), 83 !NMI, 84 P6-0, 85 P6-1, 86 P6-2, 87 P6-3, 88 P6-4, 89 P6-5, 90 P6-6, 91 P6-7, 92 P2-8, 93 P2-9, 94 P2-10, 95 P2-11, 96 P2-12, 97 P2-13, 98 P2-14, 99 P2-15, 100 P5-10
part B pins: 6 VSS@1 (power), 9 VCC@1 (power), 29 VSS@2 (power), 30 VCC@2 (power), 40 VCC@3 (power), 41 VSS@3 (power), 51 VCC@4 (power), 52 VSS@4 (power), 71 VCC@5 (power), 72 VSS@5 (power), 79 VSS@6 (power), 80 VCC@6 (power)

## C167-LM
designator IC?, comment MICROPROCESSOR/PERIPHERAL DEVICE
OC_FARNELL: 1472745; OC_NEWARK: unknown
footprint MQFP144
part A pins: 1 P6-0, 2 P6-1, 3 P6-2, 4 P6-3, 5 P6-4, 6 P6-5, 7 P6-6, 8 P6-7, 9 P8-0, 10 P8-1, 11 P8-2, 12 P8-3, 13 P8-4, 14 P8-5, 15 P8-6, 16 P8-7, 19 P7-0, 20 P7-1, 21 P7-2, 22 P7-3, 23 P7-4, 24 P7-5, 25 P7-6, 26 P7-7, 27 P5-0, 28 P5-1, 29 P5-2, 30 P5-3, 31 P5-4, 32 P5-5, 33 P5-6, 34 P5-7, 35 P5-8, 36 P5-9, 37 VAREF, 38 VAGND, 39 P5-10, 40 P5-11, 41 P5-12, 42 P5-13, 43 P5-14, 44 P5-15, 47 P2-0, 48 P2-1, 49 P2-2, 50 P2-3, 51 P2-4, 52 P2-5, 53 P2-6, 54 P2-7, 57 P2-8, 58 P2-9, 59 P2-10, 60 P2-11, 61 P2-12, 62 P2-13, 63 P2-14, 64 P2-15, 65 P3-0, 66 P3-1, 67 P3-2, 68 P3-3, 69 P3-4, 70 P3-5, 73 P3-6, 74 P3-7, 75 P3-8, 76 P3-9, 77 P3-10, 78 P3-11, 79 P3-12, 80 P3-13, 81 P3-15, 84 VPP, 85 P4-0, 86 P4-1, 87 P4-2, 88 P4-3, 89 P4-4, 90 P4-5, 91 P4-6, 92 P4-7, 95 !RD (out), 96 !WR!/!WRL (out), 97 !READY, 98 ALE (out), 99 !EA, 100 P0L-0, 101 P0L-1, 102 P0L-2, 103 P0L-3, 104 P0L-4, 105 P0L-5, 106 P0L-6, 107 P0L-7, 108 P0H-0, 111 P0H-1, 112 P0H-2, 113 P0H-3, 114 P0H-4, 115 P0H-5, 116 P0H-6, 117 P0H-7, 118 P1L-0, 119 P1L-1, 120 P1L-2, 121 P1L-3, 122 P1L-4, 123 P1L-5, 124 P1L-6, 125 P1L-7, 128 P1H-0, 129 P1H-1, 130 P1H-2, 131 P1H-3, 132 P1H-4, 133 P1H-5, 134 P1H-6, 135 P1H-7, 137 XTAL2 (out), 138 XTAL1, 140 !RSTIN, 141 !RSTOUT (out), 142 !NMI
part B pins: 17 VCC@1 (power), 18 VSS@1 (power), 45 VSS@2 (power), 46 VCC@2 (power), 55 VSS@3 (power), 56 VCC@3 (power), 71 VSS@4 (power), 72 VCC@4 (power), 82 VCC@5 (power), 83 VSS@5 (power), 93 VCC@6 (power), 94 VSS@6 (power), 109 VCC@7 (power), 110 VSS@7 (power), 126 VCC@8 (power), 127 VSS@8 (power), 136 VCC@9 (power), 139 VSS@9 (power), 143 VSS@10 (power), 144 VCC@10 (power)

## C501-LN
designator IC?, comment MICROPROCESSOR/PERIPHERAL DEVICE
OC_FARNELL: unknown; OC_NEWARK: unknown
footprint PLCC44
part A pins: 1 NC@1, 2 P1-0, 3 P1-1, 4 P1-2, 5 P1-3, 6 P1-4, 7 P1-5, 8 P1-6, 9 P1-7, 10 RESET, 11 P3-0, 12 NC@2, 13 P3-1, 14 P3-2, 15 P3-3, 16 P3-4, 17 P3-5, 18 P3-6, 19 P3-7, 20 XTAL2, 21 XTAL1, 23 NC@3, 24 P2-0, 25 P2-1, 26 P2-2, 27 P2-3, 28 P2-4, 29 P2-5, 30 P2-6, 31 P2-7, 32 !PSEN (out), 33 ALE (out), 34 NC@4, 35 !EA, 36 P0-7, 37 P0-6, 38 P0-5, 39 P0-4, 40 P0-3, 41 P0-2, 42 P0-1, 43 P0-0
part B pins: 22 VSS (power), 44 VCC (power)

## C501-LP
designator IC?, comment MICROPROCESSOR/PERIPHERAL DEVICE
OC_FARNELL: unknown; OC_NEWARK: unknown
footprint DIL40
part A pins: 1 P1-0, 2 P1-1, 3 P1-2, 4 P1-3, 5 P1-4, 6 P1-5, 7 P1-6, 8 P1-7, 9 RESET, 10 P3-0, 11 P3-1, 12 P3-2, 13 P3-3, 14 P3-4, 15 P3-5, 16 P3-6, 17 P3-7, 18 XTAL2, 19 XTAL1, 21 P2-0, 22 P2-1, 23 P2-2, 24 P2-3, 25 P2-4, 26 P2-5, 27 P2-6, 28 P2-7, 29 !PSEN (out), 30 ALE (out), 31 !EA, 32 P0-7, 33 P0-6, 34 P0-5, 35 P0-4, 36 P0-3, 37 P0-2, 38 P0-1, 39 P0-0
part B pins: 20 VSS (power), 40 VCC (power)

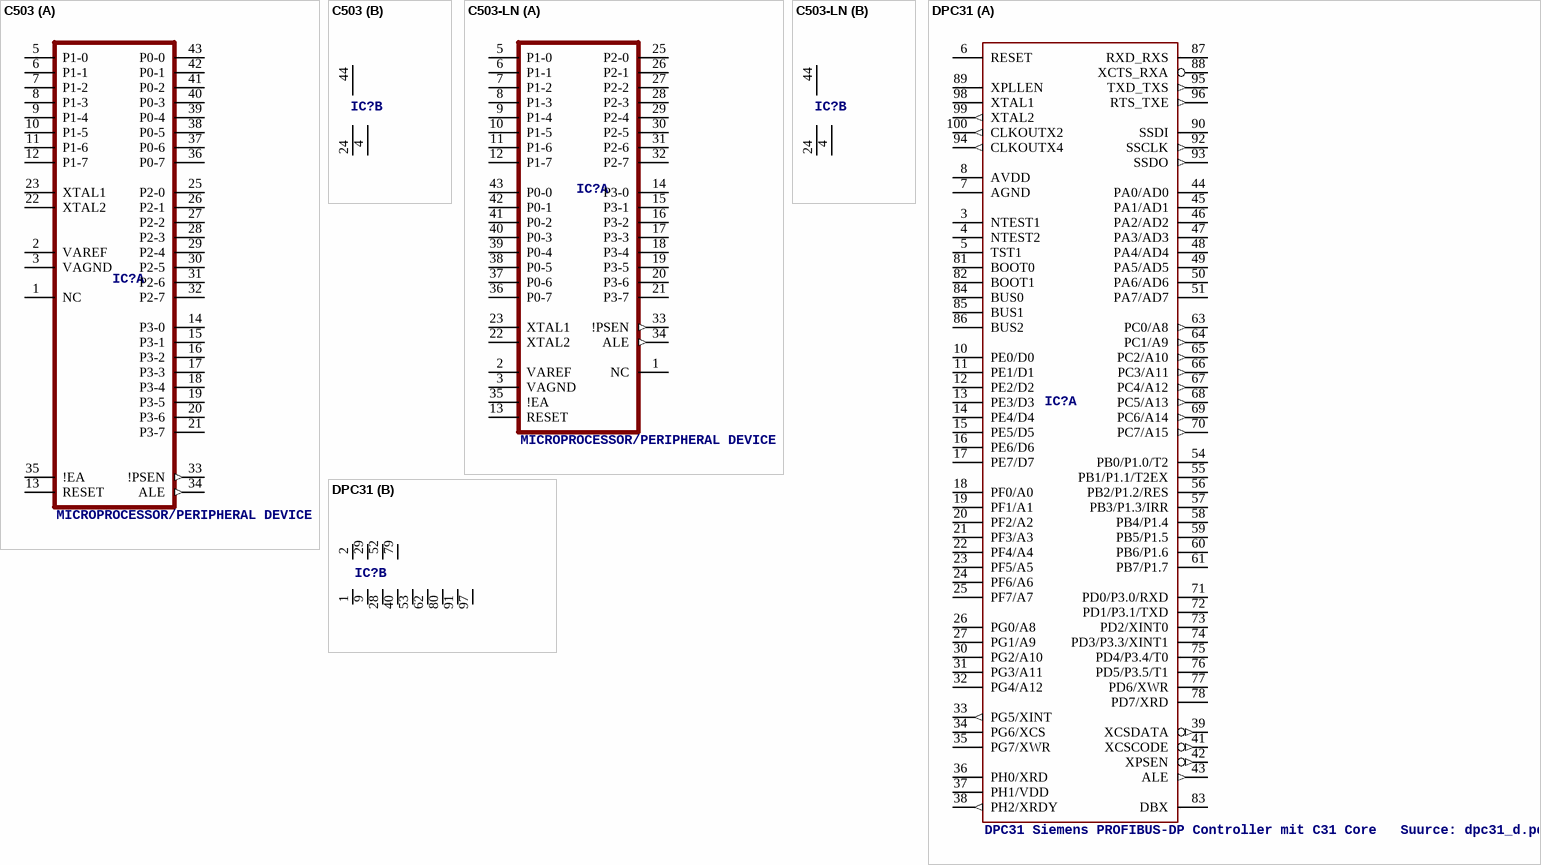
[diagram p9: symbols C503 to DPC31]

## C503
designator IC?, comment MICROPROCESSOR/PERIPHERAL DEVICE
OC_FARNELL: unknown; OC_NEWARK: unknown
footprint PLCC44
part A pins: 1 NC, 2 VAREF, 3 VAGND, 5 P1-0, 6 P1-1, 7 P1-2, 8 P1-3, 9 P1-4, 10 P1-5, 11 P1-6, 12 P1-7, 13 RESET, 14 P3-0, 15 P3-1, 16 P3-2, 17 P3-3, 18 P3-4, 19 P3-5, 20 P3-6, 21 P3-7, 22 XTAL2, 23 XTAL1, 25 P2-0, 26 P2-1, 27 P2-2, 28 P2-3, 29 P2-4, 30 P2-5, 31 P2-6, 32 P2-7, 33 !PSEN (out), 34 ALE (out), 35 !EA, 36 P0-7, 37 P0-6, 38 P0-5, 39 P0-4, 40 P0-3, 41 P0-2, 42 P0-1, 43 P0-0
part B pins: 4 VSS@1 (power), 24 VSS (power), 44 VCC (power)

## C503-LN
designator IC?, comment MICROPROCESSOR/PERIPHERAL DEVICE
OC_FARNELL: unknown; OC_NEWARK: unknown
footprint PLCC44
part A pins: 1 NC, 2 VAREF, 3 VAGND, 5 P1-0, 6 P1-1, 7 P1-2, 8 P1-3, 9 P1-4, 10 P1-5, 11 P1-6, 12 P1-7, 13 RESET, 14 P3-0, 15 P3-1, 16 P3-2, 17 P3-3, 18 P3-4, 19 P3-5, 20 P3-6, 21 P3-7, 22 XTAL2, 23 XTAL1, 25 P2-0, 26 P2-1, 27 P2-2, 28 P2-3, 29 P2-4, 30 P2-5, 31 P2-6, 32 P2-7, 33 !PSEN (out), 34 ALE (out), 35 !EA, 36 P0-7, 37 P0-6, 38 P0-5, 39 P0-4, 40 P0-3, 41 P0-2, 42 P0-1, 43 P0-0
part B pins: 4 VSS@1 (power), 24 VSS (power), 44 VCC (power)

## DPC31
designator IC?, comment DPC31 Siemens PROFIBUS-DP Controller mit C31 Core   Suurce: dpc31_d.pdf
OC_FARNELL: unknown; OC_NEWARK: unknown
footprint QFP100R
part A pins: 3 NTEST1, 4 NTEST2, 5 TST1, 6 RESET, 7 AGND (power), 8 AVDD (power), 10 PE0/D0, 11 PE1/D1, 12 PE2/D2, 13 PE3/D3, 14 PE4/D4, 15 PE5/D5, 16 PE6/D6, 17 PE7/D7, 18 PF0/A0, 19 PF1/A1, 20 PF2/A2, 21 PF3/A3, 22 PF4/A4, 23 PF5/A5, 24 PF6/A6, 25 PF7/A7, 26 PG0/A8, 27 PG1/A9, 30 PG2/A10, 31 PG3/A11, 32 PG4/A12, 33 PG5/XINT (out), 34 PG6/XCS, 35 PG7/XWR, 36 PH0/XRD, 37 PH1/VDD, 38 PH2/XRDY (out), 39 XCSDATA (out), 41 XCSCODE (out), 42 XPSEN (out), 43 ALE (out), 44 PA0/AD0, 45 PA1/AD1, 46 PA2/AD2, 47 PA3/AD3, 48 PA4/AD4, 49 PA5/AD5, 50 PA6/AD6, 51 PA7/AD7, 54 PB0/P1.0/T2, 55 PB1/P1.1/T2EX, 56 PB2/P1.2/RES, 57 PB3/P1.3/IRR, 58 PB4/P1.4, 59 PB5/P1.5, 60 PB6/P1.6, 61 PB7/P1.7, 63 PC0/A8 (out), 64 PC1/A9 (out), 65 PC2/A10 (out), 66 PC3/A11 (out), 67 PC4/A12 (out), 68 PC5/A13 (out), 69 PC6/A14 (out), 70 PC7/A15 (out), 71 PD0/P3.0/RXD, 72 PD1/P3.1/TXD, 73 PD2/XINT0, 74 PD3/P3.3/XINT1, 75 PD4/P3.4/T0, 76 PD5/P3.5/T1, 77 PD6/XWR, 78 PD7/XRD, 81 BOOT0, 82 BOOT1, 83 DBX, 84 BUS0, 85 BUS1, 86 BUS2, 87 RXD_RXS, 88 XCTS_RXA, 89 XPLLEN, 90 SSDI, 92 SSCLK (out), 93 SSDO (out), 94 CLKOUTX4 (out), 95 TXD_TXS (out), 96 RTS_TXE (out), 98 XTAL1, 99 XTAL2 (out), 100 CLKOUTX2 (out)
part B pins: 1 GND (power), 2 VCC (power), 9 GND@1 (power), 28 GND@2 (power), 29 VCC@1 (power), 40 GND@3 (power), 52 VCC@2 (power), 53 GND@4 (power), 62 GND@5 (power), 79 VCC@3 (power), 80 GND@6 (power), 91 GND@7 (power), 97 GND@8 (power)

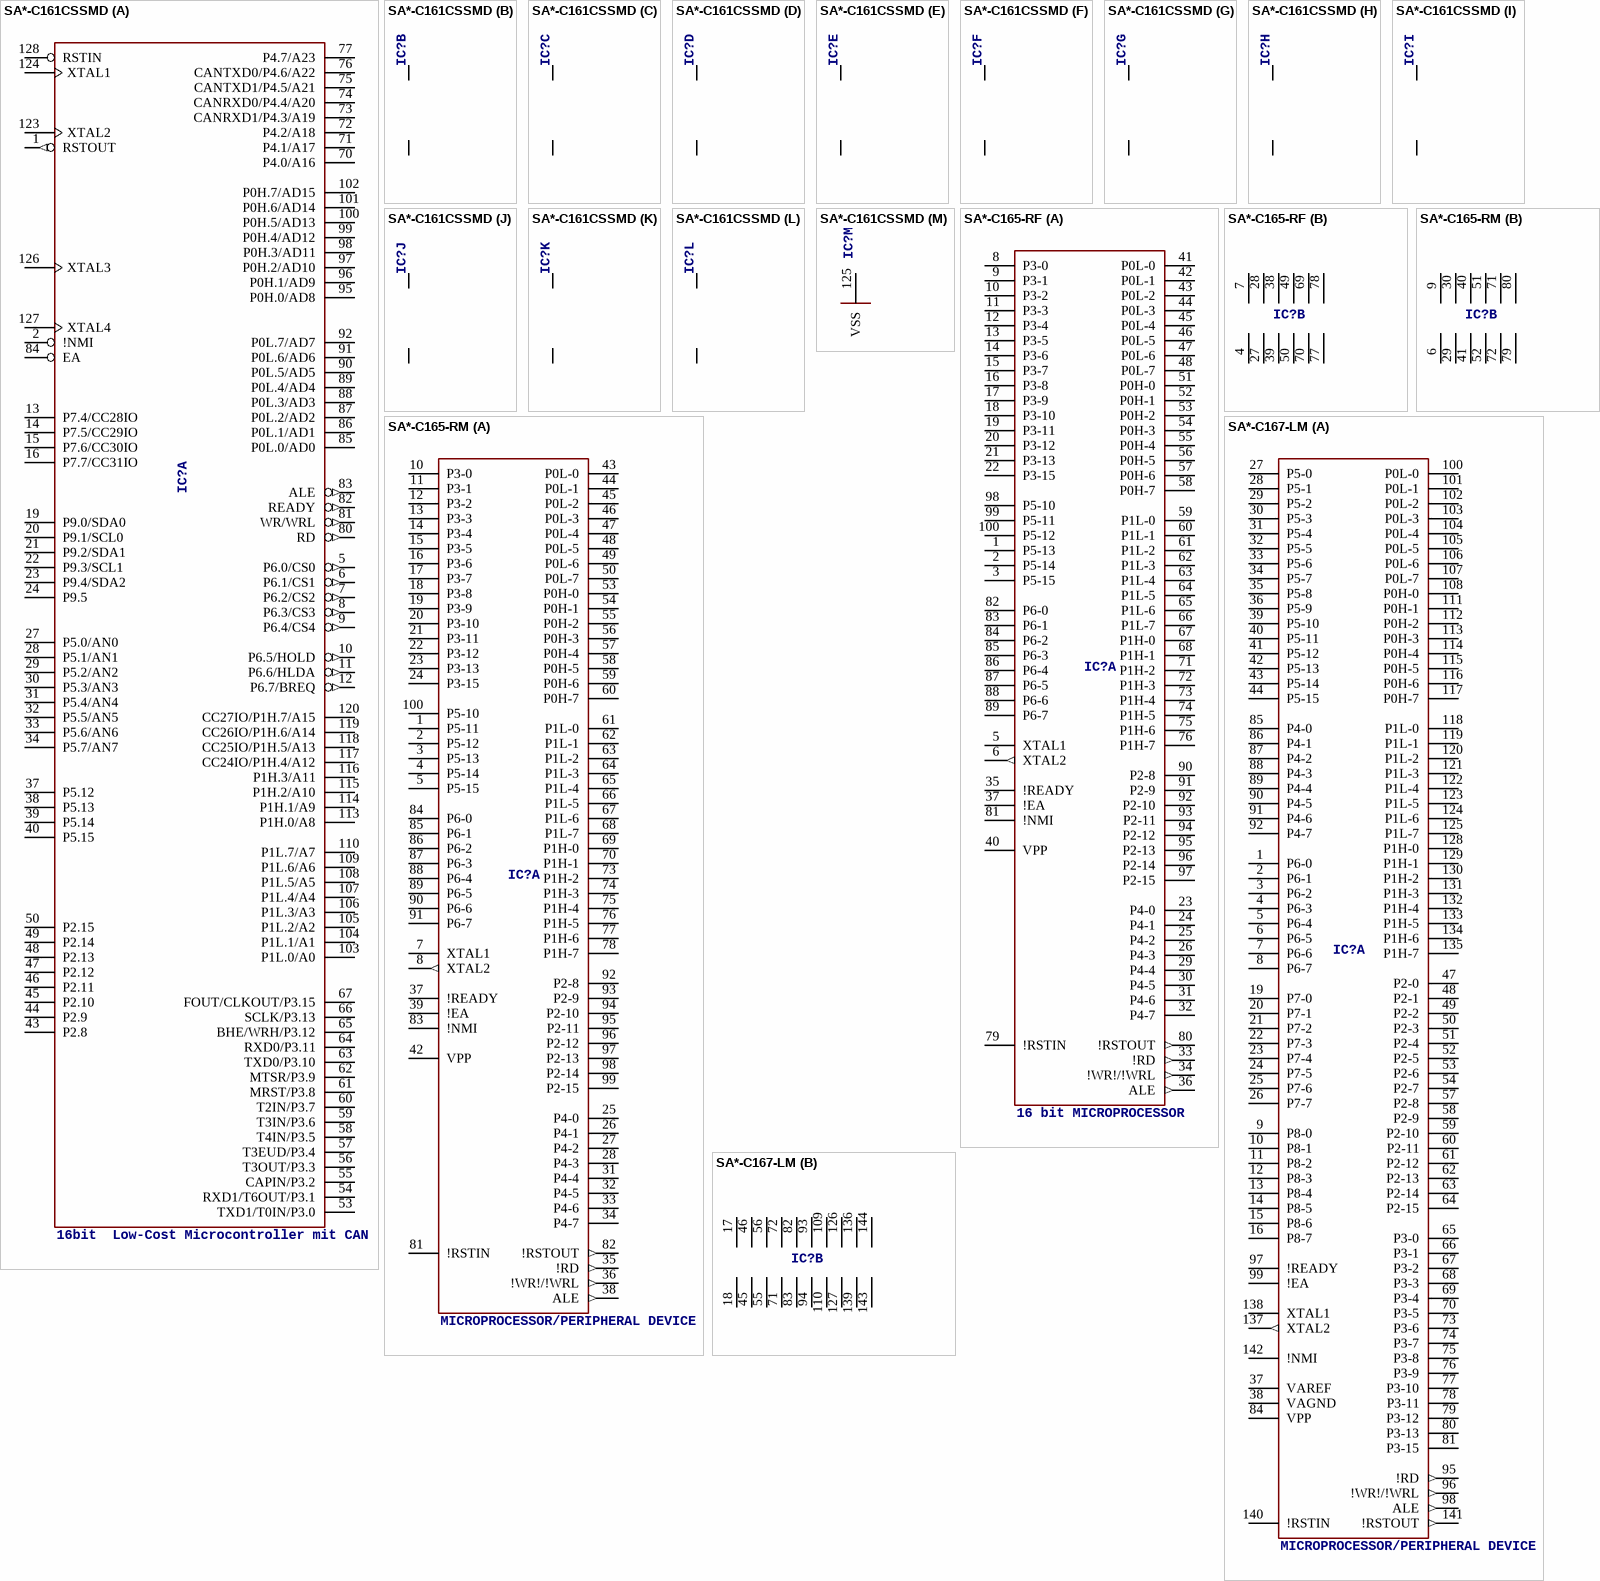
[diagram p10: symbols SA*-C161CSSMD to SA*-C167-LM]

## SA*-C161CSSMD
designator IC?, comment 16bit  Low-Cost Microcontroller mit CAN
OC_FARNELL: unknown; OC_NEWARK: unknown; OC_FARNELL: 1472739
footprint P-TQFP-128
part A pins: 1 RSTOUT (out), 2 !NMI, 5 P6.0/CS0 (out), 6 P6.1/CS1 (out), 7 P6.2/CS2 (out), 8 P6.3/CS3 (out), 9 P6.4/CS4 (out), 10 P6.5/HOLD (out), 11 P6.6/HLDA (out), 12 P6.7/BREQ (out), 13 P7.4/CC28IO, 14 P7.5/CC29IO, 15 P7.6/CC30IO, 16 P7.7/CC31IO, 19 P9.0/SDA0, 20 P9.1/SCL0, 21 P9.2/SDA1, 22 P9.3/SCL1, 23 P9.4/SDA2, 24 P9.5, 27 P5.0/AN0, 28 P5.1/AN1, 29 P5.2/AN2, 30 P5.3/AN3, 31 P5.4/AN4, 32 P5.5/AN5, 33 P5.6/AN6, 34 P5.7/AN7, 37 P5.12, 38 P5.13, 39 P5.14, 40 P5.15, 43 P2.8, 44 P2.9, 45 P2.10, 46 P2.11, 47 P2.12, 48 P2.13, 49 P2.14, 50 P2.15, 53 TXD1/T0IN/P3.0, 54 RXD1/T6OUT/P3.1, 55 CAPIN/P3.2, 56 T3OUT/P3.3, 57 T3EUD/P3.4, 58 T4IN/P3.5, 59 T3IN/P3.6, 60 T2IN/P3.7, 61 MRST/P3.8, 62 MTSR/P3.9, 63 TXD0/P3.10, 64 RXD0/P3.11, 65 BHE/WRH/P3.12, 66 SCLK/P3.13, 67 FOUT/CLKOUT/P3.15, 70 P4.0/A16, 71 P4.1/A17, 72 P4.2/A18, 73 CANRXD1/P4.3/A19, 74 CANRXD0/P4.4/A20, 75 CANTXD1/P4.5/A21, 76 CANTXD0/P4.6/A22, 77 P4.7/A23, 80 RD (out), 81 WR/WRL (out), 82 READY (out), 83 ALE (out), 84 EA, 85 P0L.0/AD0, 86 P0L.1/AD1, 87 P0L.2/AD2, 88 P0L.3/AD3, 89 P0L.4/AD4, 90 P0L.5/AD5, 91 P0L.6/AD6, 92 P0L.7/AD7, 95 P0H.0/AD8, 96 P0H.1/AD9, 97 P0H.2/AD10, 98 P0H.3/AD11, 99 P0H.4/AD12, 100 P0H.5/AD13, 101 P0H.6/AD14, 102 P0H.7/AD15, 103 P1L.0/A0, 104 P1L.1/A1, 105 P1L.2/A2, 106 P1L.3/A3, 107 P1L.4/A4, 108 P1L.5/A5, 109 P1L.6/A6, 110 P1L.7/A7, 113 P1H.0/A8, 114 P1H.1/A9, 115 P1H.2/A10, 116 P1H.3/A11, 117 CC24IO/P1H.4/A12, 118 CC25IO/P1H.5/A13, 119 CC26IO/P1H.6/A14, 120 CC27IO/P1H.7/A15, 123 XTAL2, 124 XTAL1, 126 XTAL3, 127 XTAL4, 128 RSTIN
part B pins: 121 VDD@0 (power), 122 VSS@0 (power)
part C pins: 3 VSS@0 (power), 4 VDD@0 (power)
part D pins: 17 VSS@0 (power), 18 VDD@0 (power)
part E pins: 25 VSS@0 (power), 26 VDD@0 (power)
part F pins: 41 VSS@0 (power), 42 VDD@0 (power)
part G pins: 51 VSS@0 (power), 52 VDD@0 (power)
part H pins: 93 VDD@0 (power), 94 VSS@0 (power)
part I pins: 111 VDD@0 (power), 112 VSS@0 (power)
part J pins: 78 VDD@0 (power), 79 VSS@0 (power)
part K pins: 68 VDD@0 (power), 69 VSS@0 (power)
part L pins: 35 VAREF (power), 36 VAGND (power)
part M pins: 125 VSS (power)

## SA*-C165-RF
designator IC?, comment 16 bit MICROPROCESSOR
OC_FARNELL: unknown; OC_NEWARK: unknown
footprint TQFP100
part A pins: 1 P5-13, 2 P5-14, 3 P5-15, 5 XTAL1, 6 XTAL2 (out), 8 P3-0, 9 P3-1, 10 P3-2, 11 P3-3, 12 P3-4, 13 P3-5, 14 P3-6, 15 P3-7, 16 P3-8, 17 P3-9, 18 P3-10, 19 P3-11, 20 P3-12, 21 P3-13, 22 P3-15, 23 P4-0, 24 P4-1, 25 P4-2, 26 P4-3, 29 P4-4, 30 P4-5, 31 P4-6, 32 P4-7, 33 !RD (out), 34 !WR!/!WRL (out), 35 !READY, 36 ALE (out), 37 !EA, 40 VPP, 41 P0L-0, 42 P0L-1, 43 P0L-2, 44 P0L-3, 45 P0L-4, 46 P0L-5, 47 P0L-6, 48 P0L-7, 51 P0H-0, 52 P0H-1, 53 P0H-2, 54 P0H-3, 55 P0H-4, 56 P0H-5, 57 P0H-6, 58 P0H-7, 59 P1L-0, 60 P1L-1, 61 P1L-2, 62 P1L-3, 63 P1L-4, 64 P1L-5, 65 P1L-6, 66 P1L-7, 67 P1H-0, 68 P1H-1, 71 P1H-2, 72 P1H-3, 73 P1H-4, 74 P1H-5, 75 P1H-6, 76 P1H-7, 79 !RSTIN, 80 !RSTOUT (out), 81 !NMI, 82 P6-0, 83 P6-1, 84 P6-2, 85 P6-3, 86 P6-4, 87 P6-5, 88 P6-6, 89 P6-7, 90 P2-8, 91 P2-9, 92 P2-10, 93 P2-11, 94 P2-12, 95 P2-13, 96 P2-14, 97 P2-15, 98 P5-10, 99 P5-11, 100 P5-12
part B pins: 4 VSS@1 (power), 7 VCC@1 (power), 27 VSS@2 (power), 28 VCC@2 (power), 38 VCC@3 (power), 39 VSS@3 (power), 49 VCC@4 (power), 50 VSS@4 (power), 69 VCC@5 (power), 70 VSS@5 (power), 77 VSS@6 (power), 78 VCC@6 (power)